# Altium integrated library Actel ProASIC3 nano.IntLib: 200 symbols (part 1 of 15)
Pins are listed as number, name and electrical type; pins without a type are passive.

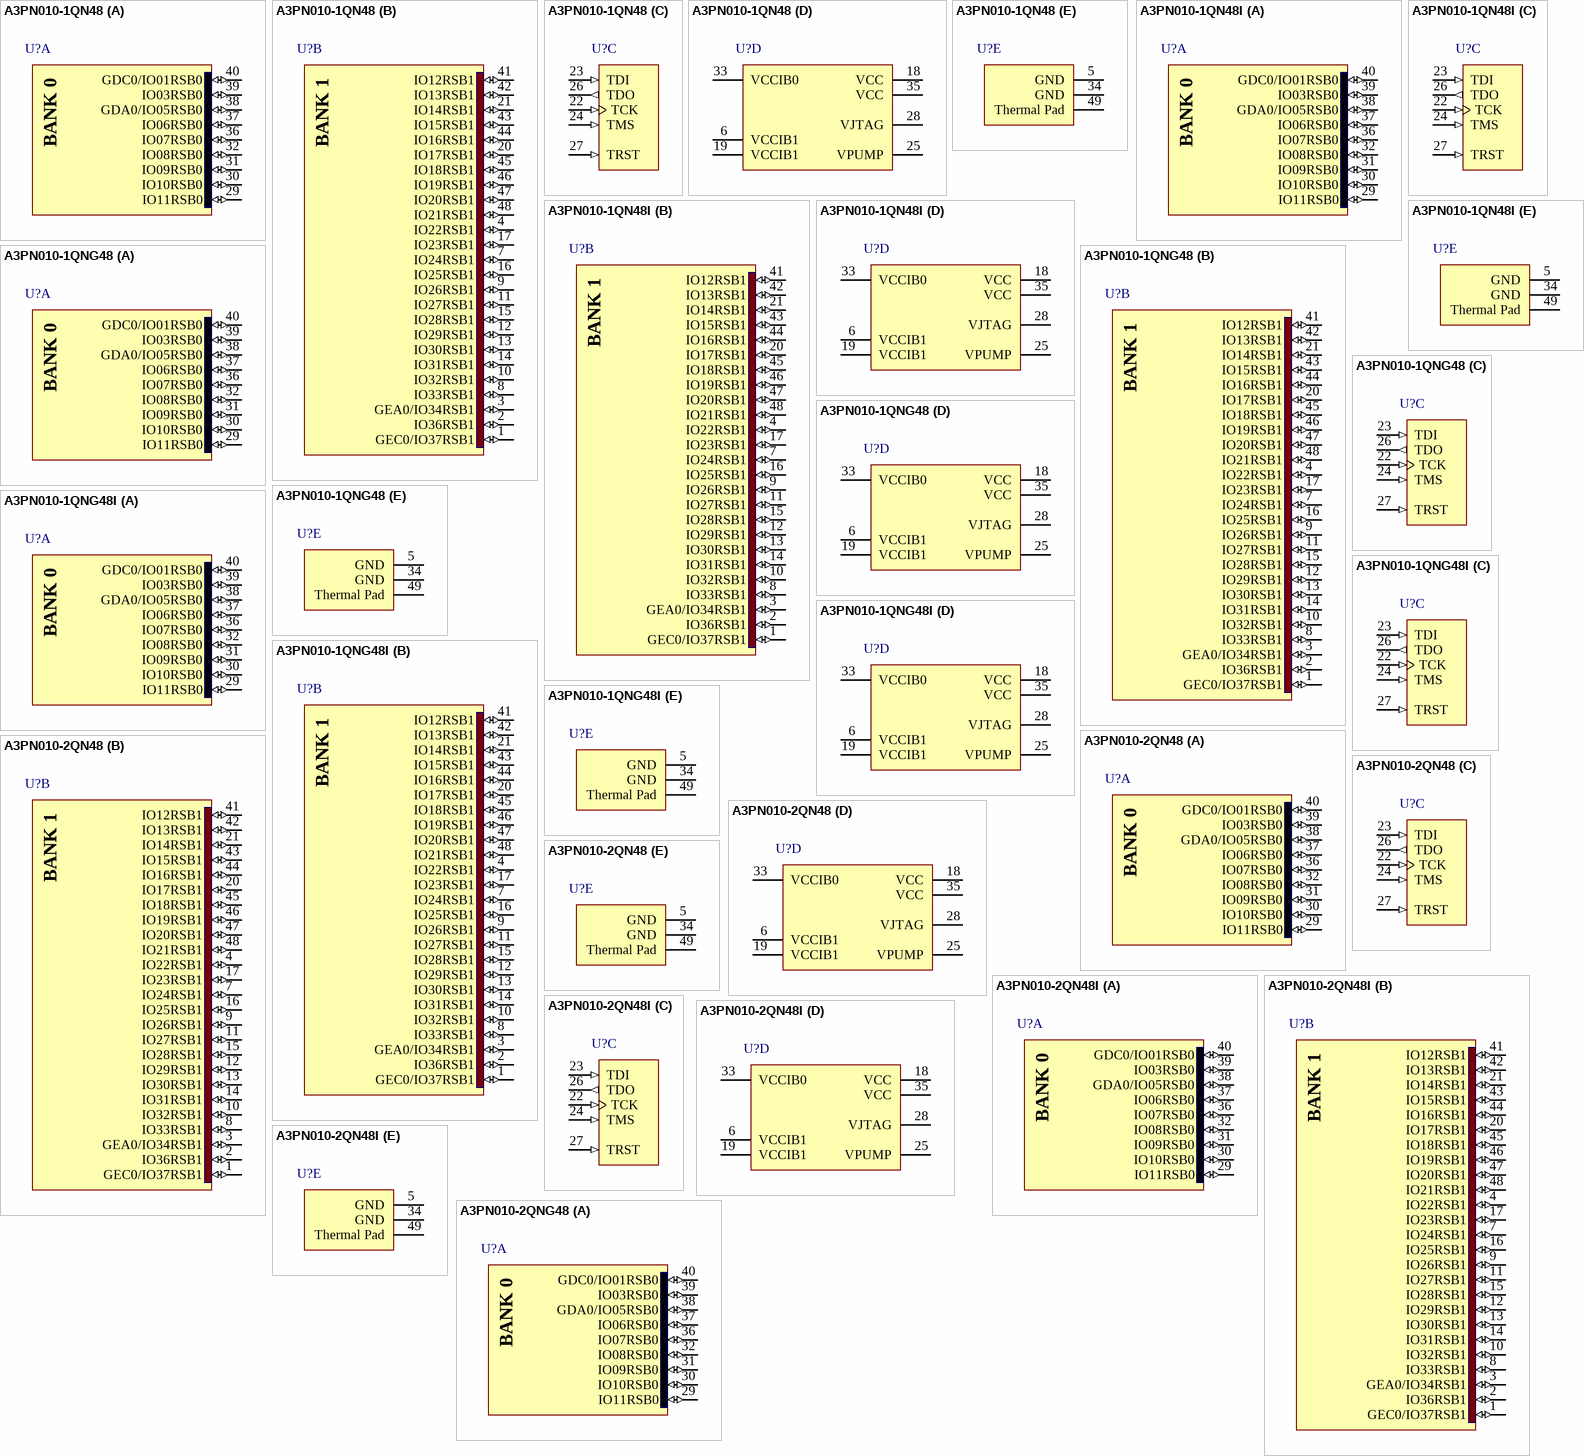
[diagram p0: symbols A3PN010-1QN48 to A3PN010-2QNG48]

## A3PN010-1QN48
designator U?
ProASIC3 nano Flash FPGA, 34 User IOs, 10K System Gates, Speed 15% above Standard, 48-Pin QFP, Commerical Grade; DatasheetVersion: v0.6, Jan-2010; PackageVersion: rev40, Jun-2011; PackageReference: QN48; PackageDescription: 48-Pin Quad Flat No-Lead 0.4 mm Pitch (QN48); Code_JEDEC: MO-220-VLLE-1; ComponentLink1Description: Manufacturer URL; ComponentLink1URL: http://www.actel.com/; ComponentLink2Description: ProASIC3 Datasheet; ComponentLink2URL: http://www.actel.com/documents/PA3_nano_DS.pdf; ComponentLink3Description: Package Mechanical Drawings; ComponentLink3URL: http://www.actel.com/documents/PckgMechDrwngs.pdf; ComponentLink4Description: ProASIC3 nano Documents; ComponentLink4URL: http://www.actel.com/products/pa3nano/docs.aspx
footprint QN48_N (QFN, 48-Leads, Body 6x6mm, Pitch 0.4mm, Thermal Pad 4.8x4.8mm, IPC Medium Density)
footprint QN48_L (QFN, 48-Leads, Body 6x6mm, Pitch 0.4mm, Thermal Pad 4.8x4.8mm, IPC High Density)
footprint QN48_M (QFN, 48-Leads, Body 6x6mm, Pitch 0.4mm, Thermal Pad 4.8x4.8mm, IPC Low Density)
part A pins: 29 IO11RSB0 (io), 30 IO10RSB0 (io), 31 IO09RSB0 (io), 32 IO08RSB0 (io), 36 IO07RSB0 (io), 37 IO06RSB0 (io), 38 GDA0/IO05RSB0 (io), 39 IO03RSB0 (io), 40 GDC0/IO01RSB0 (io)
part B pins: 1 GEC0/IO37RSB1 (io), 2 IO36RSB1 (io), 3 GEA0/IO34RSB1 (io), 4 IO22RSB1 (io), 7 IO24RSB1 (io), 8 IO33RSB1 (io), 9 IO26RSB1 (io), 10 IO32RSB1 (io), 11 IO27RSB1 (io), 12 IO29RSB1 (io), 13 IO30RSB1 (io), 14 IO31RSB1 (io), 15 IO28RSB1 (io), 16 IO25RSB1 (io), 17 IO23RSB1 (io), 20 IO17RSB1 (io), 21 IO14RSB1 (io), 41 IO12RSB1 (io), 42 IO13RSB1 (io), 43 IO15RSB1 (io), 44 IO16RSB1 (io), 45 IO18RSB1 (io), 46 IO19RSB1 (io), 47 IO20RSB1 (io), 48 IO21RSB1 (io)
part C pins: 22 TCK (in), 23 TDI (in), 24 TMS (in), 26 TDO (out), 27 TRST (in)
part D pins: 6 VCCIB1 (power), 18 VCC (power), 19 VCCIB1 (power), 25 VPUMP (power), 28 VJTAG (power), 33 VCCIB0 (power), 35 VCC (power)
part E pins: 5 GND (power), 34 GND (power), 49 Thermal Pad (power)
part A text: BANK 0
part B text: BANK 1

## A3PN010-1QN48I
designator U?
ProASIC3 nano Flash FPGA, 34 User IOs, 10K System Gates, Speed 15% above Standard, 48-Pin QFP, Industrial Grade; DatasheetVersion: v0.6, Jan-2010; PackageVersion: rev40, Jun-2011; PackageReference: QN48; PackageDescription: 48-Pin Quad Flat No-Lead 0.4 mm Pitch (QN48); Code_JEDEC: MO-220-VLLE-1; ComponentLink1Description: Manufacturer URL; ComponentLink1URL: http://www.actel.com/; ComponentLink2Description: ProASIC3 Datasheet; ComponentLink2URL: http://www.actel.com/documents/PA3_nano_DS.pdf; ComponentLink3Description: Package Mechanical Drawings; ComponentLink3URL: http://www.actel.com/documents/PckgMechDrwngs.pdf; ComponentLink4Description: ProASIC3 nano Documents; ComponentLink4URL: http://www.actel.com/products/pa3nano/docs.aspx
footprint QN48_N (QFN, 48-Leads, Body 6x6mm, Pitch 0.4mm, Thermal Pad 4.8x4.8mm, IPC Medium Density)
footprint QN48_L (QFN, 48-Leads, Body 6x6mm, Pitch 0.4mm, Thermal Pad 4.8x4.8mm, IPC High Density)
footprint QN48_M (QFN, 48-Leads, Body 6x6mm, Pitch 0.4mm, Thermal Pad 4.8x4.8mm, IPC Low Density)
part A pins: 29 IO11RSB0 (io), 30 IO10RSB0 (io), 31 IO09RSB0 (io), 32 IO08RSB0 (io), 36 IO07RSB0 (io), 37 IO06RSB0 (io), 38 GDA0/IO05RSB0 (io), 39 IO03RSB0 (io), 40 GDC0/IO01RSB0 (io)
part B pins: 1 GEC0/IO37RSB1 (io), 2 IO36RSB1 (io), 3 GEA0/IO34RSB1 (io), 4 IO22RSB1 (io), 7 IO24RSB1 (io), 8 IO33RSB1 (io), 9 IO26RSB1 (io), 10 IO32RSB1 (io), 11 IO27RSB1 (io), 12 IO29RSB1 (io), 13 IO30RSB1 (io), 14 IO31RSB1 (io), 15 IO28RSB1 (io), 16 IO25RSB1 (io), 17 IO23RSB1 (io), 20 IO17RSB1 (io), 21 IO14RSB1 (io), 41 IO12RSB1 (io), 42 IO13RSB1 (io), 43 IO15RSB1 (io), 44 IO16RSB1 (io), 45 IO18RSB1 (io), 46 IO19RSB1 (io), 47 IO20RSB1 (io), 48 IO21RSB1 (io)
part C pins: 22 TCK (in), 23 TDI (in), 24 TMS (in), 26 TDO (out), 27 TRST (in)
part D pins: 6 VCCIB1 (power), 18 VCC (power), 19 VCCIB1 (power), 25 VPUMP (power), 28 VJTAG (power), 33 VCCIB0 (power), 35 VCC (power)
part E pins: 5 GND (power), 34 GND (power), 49 Thermal Pad (power)
part A text: BANK 0
part B text: BANK 1

## A3PN010-1QNG48
designator U?
ProASIC3 nano Flash FPGA, 34 User IOs, 10K System Gates, Speed 15% above Standard, 48-Pin QFP, Pb-Free, Commerical Grade; DatasheetVersion: v0.6, Jan-2010; PackageVersion: rev40, Jun-2011; PackageReference: QN48; PackageDescription: 48-Pin Quad Flat No-Lead 0.4 mm Pitch (QN48); Code_JEDEC: MO-220-VLLE-1; ComponentLink1Description: Manufacturer URL; ComponentLink1URL: http://www.actel.com/; ComponentLink2Description: ProASIC3 Datasheet; ComponentLink2URL: http://www.actel.com/documents/PA3_nano_DS.pdf; ComponentLink3Description: Package Mechanical Drawings; ComponentLink3URL: http://www.actel.com/documents/PckgMechDrwngs.pdf; ComponentLink4Description: ProASIC3 nano Documents; ComponentLink4URL: http://www.actel.com/products/pa3nano/docs.aspx
footprint QN48_N (QFN, 48-Leads, Body 6x6mm, Pitch 0.4mm, Thermal Pad 4.8x4.8mm, IPC Medium Density)
footprint QN48_L (QFN, 48-Leads, Body 6x6mm, Pitch 0.4mm, Thermal Pad 4.8x4.8mm, IPC High Density)
footprint QN48_M (QFN, 48-Leads, Body 6x6mm, Pitch 0.4mm, Thermal Pad 4.8x4.8mm, IPC Low Density)
part A pins: 29 IO11RSB0 (io), 30 IO10RSB0 (io), 31 IO09RSB0 (io), 32 IO08RSB0 (io), 36 IO07RSB0 (io), 37 IO06RSB0 (io), 38 GDA0/IO05RSB0 (io), 39 IO03RSB0 (io), 40 GDC0/IO01RSB0 (io)
part B pins: 1 GEC0/IO37RSB1 (io), 2 IO36RSB1 (io), 3 GEA0/IO34RSB1 (io), 4 IO22RSB1 (io), 7 IO24RSB1 (io), 8 IO33RSB1 (io), 9 IO26RSB1 (io), 10 IO32RSB1 (io), 11 IO27RSB1 (io), 12 IO29RSB1 (io), 13 IO30RSB1 (io), 14 IO31RSB1 (io), 15 IO28RSB1 (io), 16 IO25RSB1 (io), 17 IO23RSB1 (io), 20 IO17RSB1 (io), 21 IO14RSB1 (io), 41 IO12RSB1 (io), 42 IO13RSB1 (io), 43 IO15RSB1 (io), 44 IO16RSB1 (io), 45 IO18RSB1 (io), 46 IO19RSB1 (io), 47 IO20RSB1 (io), 48 IO21RSB1 (io)
part C pins: 22 TCK (in), 23 TDI (in), 24 TMS (in), 26 TDO (out), 27 TRST (in)
part D pins: 6 VCCIB1 (power), 18 VCC (power), 19 VCCIB1 (power), 25 VPUMP (power), 28 VJTAG (power), 33 VCCIB0 (power), 35 VCC (power)
part E pins: 5 GND (power), 34 GND (power), 49 Thermal Pad (power)
part A text: BANK 0
part B text: BANK 1

## A3PN010-1QNG48I
designator U?
ProASIC3 nano Flash FPGA, 34 User IOs, 10K System Gates, Speed 15% above Standard, 48-Pin QFP, Pb-Free, Industrial Grade; DatasheetVersion: v0.6, Jan-2010; PackageVersion: rev40, Jun-2011; PackageReference: QN48; PackageDescription: 48-Pin Quad Flat No-Lead 0.4 mm Pitch (QN48); Code_JEDEC: MO-220-VLLE-1; ComponentLink1Description: Manufacturer URL; ComponentLink1URL: http://www.actel.com/; ComponentLink2Description: ProASIC3 Datasheet; ComponentLink2URL: http://www.actel.com/documents/PA3_nano_DS.pdf; ComponentLink3Description: Package Mechanical Drawings; ComponentLink3URL: http://www.actel.com/documents/PckgMechDrwngs.pdf; ComponentLink4Description: ProASIC3 nano Documents; ComponentLink4URL: http://www.actel.com/products/pa3nano/docs.aspx
footprint QN48_N (QFN, 48-Leads, Body 6x6mm, Pitch 0.4mm, Thermal Pad 4.8x4.8mm, IPC Medium Density)
footprint QN48_L (QFN, 48-Leads, Body 6x6mm, Pitch 0.4mm, Thermal Pad 4.8x4.8mm, IPC High Density)
footprint QN48_M (QFN, 48-Leads, Body 6x6mm, Pitch 0.4mm, Thermal Pad 4.8x4.8mm, IPC Low Density)
part A pins: 29 IO11RSB0 (io), 30 IO10RSB0 (io), 31 IO09RSB0 (io), 32 IO08RSB0 (io), 36 IO07RSB0 (io), 37 IO06RSB0 (io), 38 GDA0/IO05RSB0 (io), 39 IO03RSB0 (io), 40 GDC0/IO01RSB0 (io)
part B pins: 1 GEC0/IO37RSB1 (io), 2 IO36RSB1 (io), 3 GEA0/IO34RSB1 (io), 4 IO22RSB1 (io), 7 IO24RSB1 (io), 8 IO33RSB1 (io), 9 IO26RSB1 (io), 10 IO32RSB1 (io), 11 IO27RSB1 (io), 12 IO29RSB1 (io), 13 IO30RSB1 (io), 14 IO31RSB1 (io), 15 IO28RSB1 (io), 16 IO25RSB1 (io), 17 IO23RSB1 (io), 20 IO17RSB1 (io), 21 IO14RSB1 (io), 41 IO12RSB1 (io), 42 IO13RSB1 (io), 43 IO15RSB1 (io), 44 IO16RSB1 (io), 45 IO18RSB1 (io), 46 IO19RSB1 (io), 47 IO20RSB1 (io), 48 IO21RSB1 (io)
part C pins: 22 TCK (in), 23 TDI (in), 24 TMS (in), 26 TDO (out), 27 TRST (in)
part D pins: 6 VCCIB1 (power), 18 VCC (power), 19 VCCIB1 (power), 25 VPUMP (power), 28 VJTAG (power), 33 VCCIB0 (power), 35 VCC (power)
part E pins: 5 GND (power), 34 GND (power), 49 Thermal Pad (power)
part A text: BANK 0
part B text: BANK 1

## A3PN010-2QN48
designator U?
ProASIC3 nano Flash FPGA, 34 User IOs, 10K System Gates, Speed 25% above Standard, 48-Pin QFP, Commerical Grade; DatasheetVersion: v0.6, Jan-2010; PackageVersion: rev40, Jun-2011; PackageReference: QN48; PackageDescription: 48-Pin Quad Flat No-Lead 0.4 mm Pitch (QN48); Code_JEDEC: MO-220-VLLE-1; ComponentLink1Description: Manufacturer URL; ComponentLink1URL: http://www.actel.com/; ComponentLink2Description: ProASIC3 Datasheet; ComponentLink2URL: http://www.actel.com/documents/PA3_nano_DS.pdf; ComponentLink3Description: Package Mechanical Drawings; ComponentLink3URL: http://www.actel.com/documents/PckgMechDrwngs.pdf; ComponentLink4Description: ProASIC3 nano Documents; ComponentLink4URL: http://www.actel.com/products/pa3nano/docs.aspx
footprint QN48_N (QFN, 48-Leads, Body 6x6mm, Pitch 0.4mm, Thermal Pad 4.8x4.8mm, IPC Medium Density)
footprint QN48_L (QFN, 48-Leads, Body 6x6mm, Pitch 0.4mm, Thermal Pad 4.8x4.8mm, IPC High Density)
footprint QN48_M (QFN, 48-Leads, Body 6x6mm, Pitch 0.4mm, Thermal Pad 4.8x4.8mm, IPC Low Density)
part A pins: 29 IO11RSB0 (io), 30 IO10RSB0 (io), 31 IO09RSB0 (io), 32 IO08RSB0 (io), 36 IO07RSB0 (io), 37 IO06RSB0 (io), 38 GDA0/IO05RSB0 (io), 39 IO03RSB0 (io), 40 GDC0/IO01RSB0 (io)
part B pins: 1 GEC0/IO37RSB1 (io), 2 IO36RSB1 (io), 3 GEA0/IO34RSB1 (io), 4 IO22RSB1 (io), 7 IO24RSB1 (io), 8 IO33RSB1 (io), 9 IO26RSB1 (io), 10 IO32RSB1 (io), 11 IO27RSB1 (io), 12 IO29RSB1 (io), 13 IO30RSB1 (io), 14 IO31RSB1 (io), 15 IO28RSB1 (io), 16 IO25RSB1 (io), 17 IO23RSB1 (io), 20 IO17RSB1 (io), 21 IO14RSB1 (io), 41 IO12RSB1 (io), 42 IO13RSB1 (io), 43 IO15RSB1 (io), 44 IO16RSB1 (io), 45 IO18RSB1 (io), 46 IO19RSB1 (io), 47 IO20RSB1 (io), 48 IO21RSB1 (io)
part C pins: 22 TCK (in), 23 TDI (in), 24 TMS (in), 26 TDO (out), 27 TRST (in)
part D pins: 6 VCCIB1 (power), 18 VCC (power), 19 VCCIB1 (power), 25 VPUMP (power), 28 VJTAG (power), 33 VCCIB0 (power), 35 VCC (power)
part E pins: 5 GND (power), 34 GND (power), 49 Thermal Pad (power)
part A text: BANK 0
part B text: BANK 1

## A3PN010-2QN48I
designator U?
ProASIC3 nano Flash FPGA, 34 User IOs, 10K System Gates, Speed 25% above Standard, 48-Pin QFP, Industrial Grade; DatasheetVersion: v0.6, Jan-2010; PackageVersion: rev40, Jun-2011; PackageReference: QN48; PackageDescription: 48-Pin Quad Flat No-Lead 0.4 mm Pitch (QN48); Code_JEDEC: MO-220-VLLE-1; ComponentLink1Description: Manufacturer URL; ComponentLink1URL: http://www.actel.com/; ComponentLink2Description: ProASIC3 Datasheet; ComponentLink2URL: http://www.actel.com/documents/PA3_nano_DS.pdf; ComponentLink3Description: Package Mechanical Drawings; ComponentLink3URL: http://www.actel.com/documents/PckgMechDrwngs.pdf; ComponentLink4Description: ProASIC3 nano Documents; ComponentLink4URL: http://www.actel.com/products/pa3nano/docs.aspx
footprint QN48_N (QFN, 48-Leads, Body 6x6mm, Pitch 0.4mm, Thermal Pad 4.8x4.8mm, IPC Medium Density)
footprint QN48_L (QFN, 48-Leads, Body 6x6mm, Pitch 0.4mm, Thermal Pad 4.8x4.8mm, IPC High Density)
footprint QN48_M (QFN, 48-Leads, Body 6x6mm, Pitch 0.4mm, Thermal Pad 4.8x4.8mm, IPC Low Density)
part A pins: 29 IO11RSB0 (io), 30 IO10RSB0 (io), 31 IO09RSB0 (io), 32 IO08RSB0 (io), 36 IO07RSB0 (io), 37 IO06RSB0 (io), 38 GDA0/IO05RSB0 (io), 39 IO03RSB0 (io), 40 GDC0/IO01RSB0 (io)
part B pins: 1 GEC0/IO37RSB1 (io), 2 IO36RSB1 (io), 3 GEA0/IO34RSB1 (io), 4 IO22RSB1 (io), 7 IO24RSB1 (io), 8 IO33RSB1 (io), 9 IO26RSB1 (io), 10 IO32RSB1 (io), 11 IO27RSB1 (io), 12 IO29RSB1 (io), 13 IO30RSB1 (io), 14 IO31RSB1 (io), 15 IO28RSB1 (io), 16 IO25RSB1 (io), 17 IO23RSB1 (io), 20 IO17RSB1 (io), 21 IO14RSB1 (io), 41 IO12RSB1 (io), 42 IO13RSB1 (io), 43 IO15RSB1 (io), 44 IO16RSB1 (io), 45 IO18RSB1 (io), 46 IO19RSB1 (io), 47 IO20RSB1 (io), 48 IO21RSB1 (io)
part C pins: 22 TCK (in), 23 TDI (in), 24 TMS (in), 26 TDO (out), 27 TRST (in)
part D pins: 6 VCCIB1 (power), 18 VCC (power), 19 VCCIB1 (power), 25 VPUMP (power), 28 VJTAG (power), 33 VCCIB0 (power), 35 VCC (power)
part E pins: 5 GND (power), 34 GND (power), 49 Thermal Pad (power)
part A text: BANK 0
part B text: BANK 1

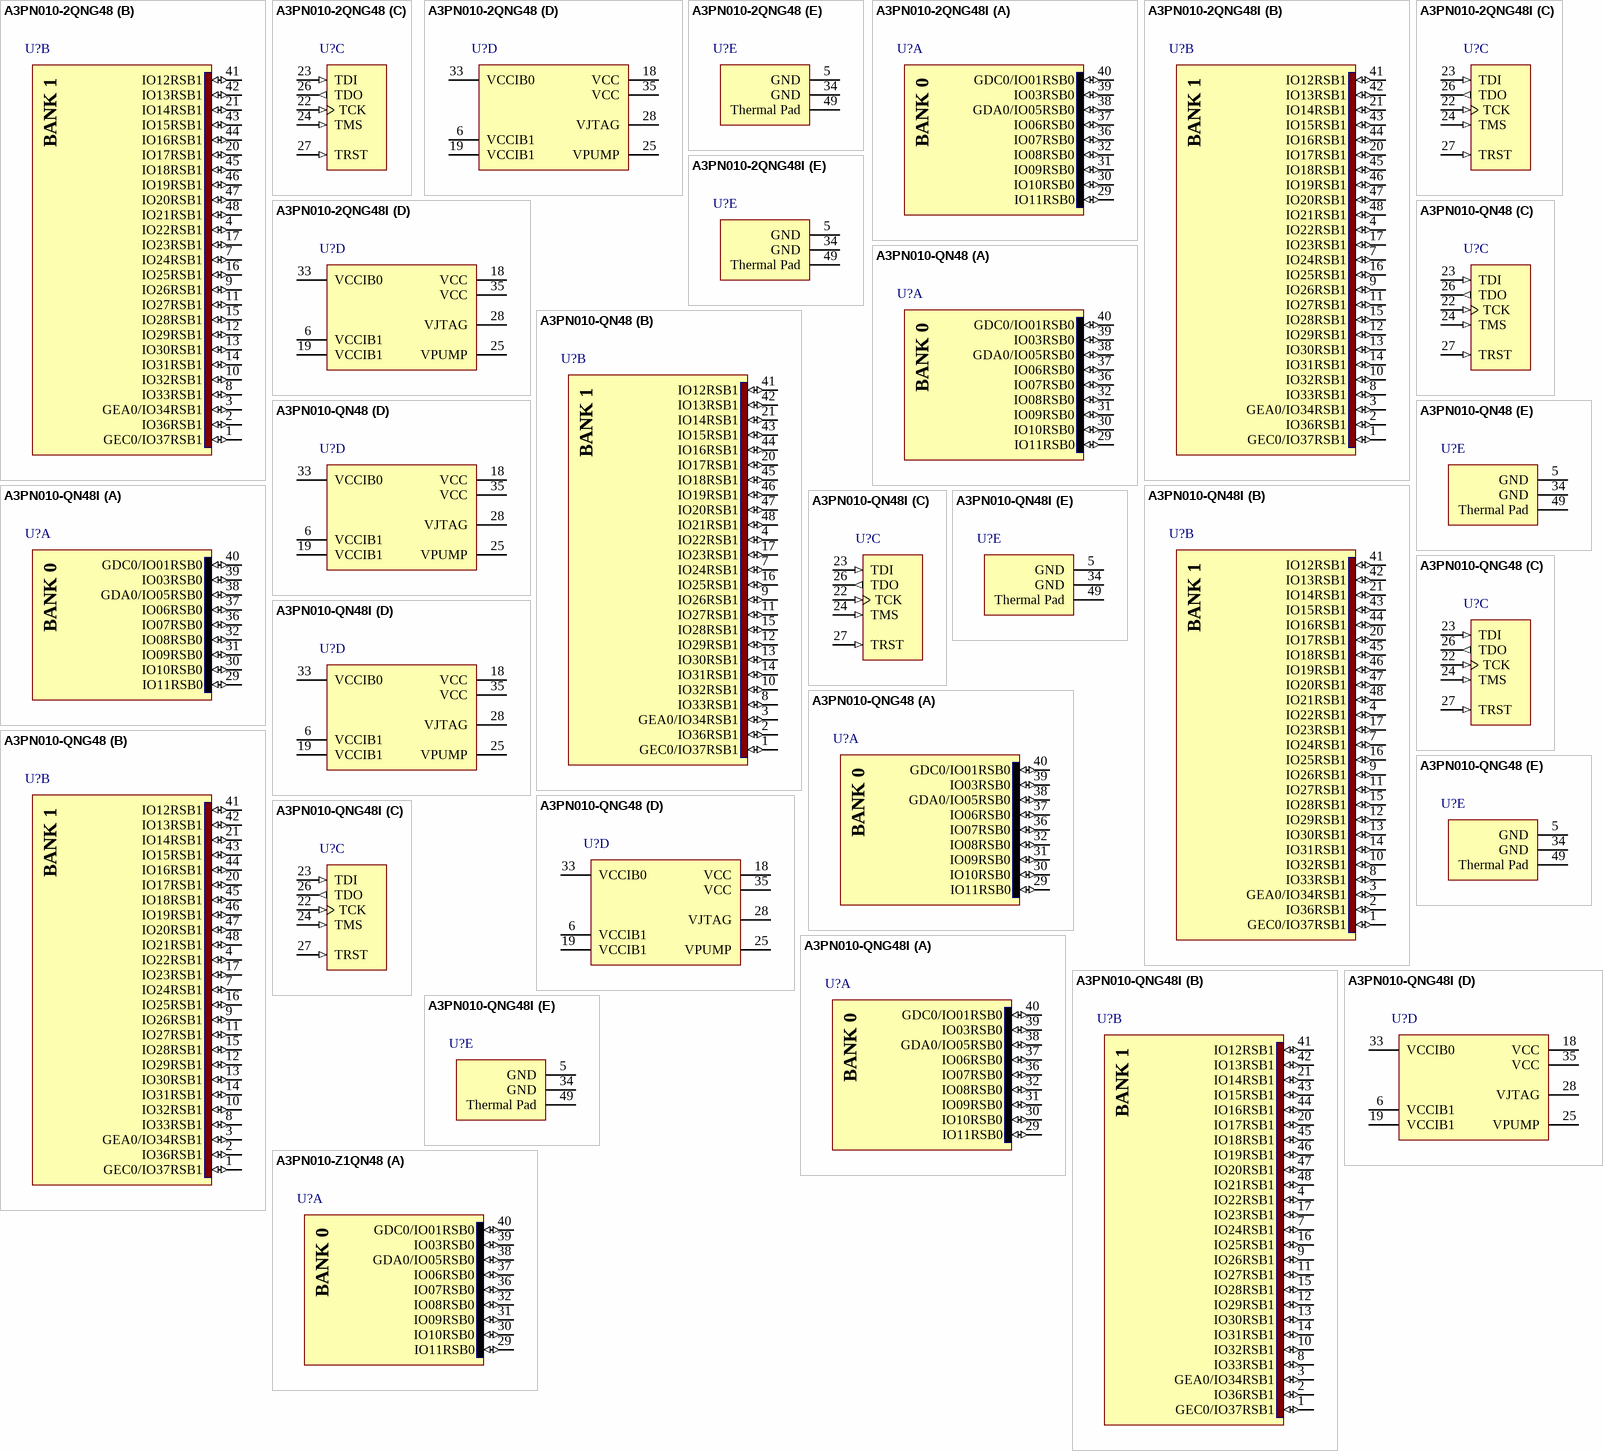
[diagram p1: symbols A3PN010-2QNG48 to A3PN010-Z1QN48]

## A3PN010-2QNG48
designator U?
ProASIC3 nano Flash FPGA, 34 User IOs, 10K System Gates, Speed 25% above Standard, 48-Pin QFP, Pb-Free, Commerical Grade; DatasheetVersion: v0.6, Jan-2010; PackageVersion: rev40, Jun-2011; PackageReference: QN48; PackageDescription: 48-Pin Quad Flat No-Lead 0.4 mm Pitch (QN48); Code_JEDEC: MO-220-VLLE-1; ComponentLink1Description: Manufacturer URL; ComponentLink1URL: http://www.actel.com/; ComponentLink2Description: ProASIC3 Datasheet; ComponentLink2URL: http://www.actel.com/documents/PA3_nano_DS.pdf; ComponentLink3Description: Package Mechanical Drawings; ComponentLink3URL: http://www.actel.com/documents/PckgMechDrwngs.pdf; ComponentLink4Description: ProASIC3 nano Documents; ComponentLink4URL: http://www.actel.com/products/pa3nano/docs.aspx
footprint QN48_N (QFN, 48-Leads, Body 6x6mm, Pitch 0.4mm, Thermal Pad 4.8x4.8mm, IPC Medium Density)
footprint QN48_L (QFN, 48-Leads, Body 6x6mm, Pitch 0.4mm, Thermal Pad 4.8x4.8mm, IPC High Density)
footprint QN48_M (QFN, 48-Leads, Body 6x6mm, Pitch 0.4mm, Thermal Pad 4.8x4.8mm, IPC Low Density)
part A pins: 29 IO11RSB0 (io), 30 IO10RSB0 (io), 31 IO09RSB0 (io), 32 IO08RSB0 (io), 36 IO07RSB0 (io), 37 IO06RSB0 (io), 38 GDA0/IO05RSB0 (io), 39 IO03RSB0 (io), 40 GDC0/IO01RSB0 (io)
part B pins: 1 GEC0/IO37RSB1 (io), 2 IO36RSB1 (io), 3 GEA0/IO34RSB1 (io), 4 IO22RSB1 (io), 7 IO24RSB1 (io), 8 IO33RSB1 (io), 9 IO26RSB1 (io), 10 IO32RSB1 (io), 11 IO27RSB1 (io), 12 IO29RSB1 (io), 13 IO30RSB1 (io), 14 IO31RSB1 (io), 15 IO28RSB1 (io), 16 IO25RSB1 (io), 17 IO23RSB1 (io), 20 IO17RSB1 (io), 21 IO14RSB1 (io), 41 IO12RSB1 (io), 42 IO13RSB1 (io), 43 IO15RSB1 (io), 44 IO16RSB1 (io), 45 IO18RSB1 (io), 46 IO19RSB1 (io), 47 IO20RSB1 (io), 48 IO21RSB1 (io)
part C pins: 22 TCK (in), 23 TDI (in), 24 TMS (in), 26 TDO (out), 27 TRST (in)
part D pins: 6 VCCIB1 (power), 18 VCC (power), 19 VCCIB1 (power), 25 VPUMP (power), 28 VJTAG (power), 33 VCCIB0 (power), 35 VCC (power)
part E pins: 5 GND (power), 34 GND (power), 49 Thermal Pad (power)
part A text: BANK 0
part B text: BANK 1

## A3PN010-2QNG48I
designator U?
ProASIC3 nano Flash FPGA, 34 User IOs, 10K System Gates, Speed 25% above Standard, 48-Pin QFP, Pb-Free, Industrial Grade; DatasheetVersion: v0.6, Jan-2010; PackageVersion: rev40, Jun-2011; PackageReference: QN48; PackageDescription: 48-Pin Quad Flat No-Lead 0.4 mm Pitch (QN48); Code_JEDEC: MO-220-VLLE-1; ComponentLink1Description: Manufacturer URL; ComponentLink1URL: http://www.actel.com/; ComponentLink2Description: ProASIC3 Datasheet; ComponentLink2URL: http://www.actel.com/documents/PA3_nano_DS.pdf; ComponentLink3Description: Package Mechanical Drawings; ComponentLink3URL: http://www.actel.com/documents/PckgMechDrwngs.pdf; ComponentLink4Description: ProASIC3 nano Documents; ComponentLink4URL: http://www.actel.com/products/pa3nano/docs.aspx
footprint QN48_N (QFN, 48-Leads, Body 6x6mm, Pitch 0.4mm, Thermal Pad 4.8x4.8mm, IPC Medium Density)
footprint QN48_L (QFN, 48-Leads, Body 6x6mm, Pitch 0.4mm, Thermal Pad 4.8x4.8mm, IPC High Density)
footprint QN48_M (QFN, 48-Leads, Body 6x6mm, Pitch 0.4mm, Thermal Pad 4.8x4.8mm, IPC Low Density)
part A pins: 29 IO11RSB0 (io), 30 IO10RSB0 (io), 31 IO09RSB0 (io), 32 IO08RSB0 (io), 36 IO07RSB0 (io), 37 IO06RSB0 (io), 38 GDA0/IO05RSB0 (io), 39 IO03RSB0 (io), 40 GDC0/IO01RSB0 (io)
part B pins: 1 GEC0/IO37RSB1 (io), 2 IO36RSB1 (io), 3 GEA0/IO34RSB1 (io), 4 IO22RSB1 (io), 7 IO24RSB1 (io), 8 IO33RSB1 (io), 9 IO26RSB1 (io), 10 IO32RSB1 (io), 11 IO27RSB1 (io), 12 IO29RSB1 (io), 13 IO30RSB1 (io), 14 IO31RSB1 (io), 15 IO28RSB1 (io), 16 IO25RSB1 (io), 17 IO23RSB1 (io), 20 IO17RSB1 (io), 21 IO14RSB1 (io), 41 IO12RSB1 (io), 42 IO13RSB1 (io), 43 IO15RSB1 (io), 44 IO16RSB1 (io), 45 IO18RSB1 (io), 46 IO19RSB1 (io), 47 IO20RSB1 (io), 48 IO21RSB1 (io)
part C pins: 22 TCK (in), 23 TDI (in), 24 TMS (in), 26 TDO (out), 27 TRST (in)
part D pins: 6 VCCIB1 (power), 18 VCC (power), 19 VCCIB1 (power), 25 VPUMP (power), 28 VJTAG (power), 33 VCCIB0 (power), 35 VCC (power)
part E pins: 5 GND (power), 34 GND (power), 49 Thermal Pad (power)
part A text: BANK 0
part B text: BANK 1

## A3PN010-QN48
designator U?
ProASIC3 nano Flash FPGA, 34 User IOs, 10K System Gates, Standard Speed, 48-Pin QFP, Commerical Grade; DatasheetVersion: v0.6, Jan-2010; PackageVersion: rev40, Jun-2011; PackageReference: QN48; PackageDescription: 48-Pin Quad Flat No-Lead 0.4 mm Pitch (QN48); Code_JEDEC: MO-220-VLLE-1; ComponentLink1Description: Manufacturer URL; ComponentLink1URL: http://www.actel.com/; ComponentLink2Description: ProASIC3 Datasheet; ComponentLink2URL: http://www.actel.com/documents/PA3_nano_DS.pdf; ComponentLink3Description: Package Mechanical Drawings; ComponentLink3URL: http://www.actel.com/documents/PckgMechDrwngs.pdf; ComponentLink4Description: ProASIC3 nano Documents; ComponentLink4URL: http://www.actel.com/products/pa3nano/docs.aspx
footprint QN48_N (QFN, 48-Leads, Body 6x6mm, Pitch 0.4mm, Thermal Pad 4.8x4.8mm, IPC Medium Density)
footprint QN48_L (QFN, 48-Leads, Body 6x6mm, Pitch 0.4mm, Thermal Pad 4.8x4.8mm, IPC High Density)
footprint QN48_M (QFN, 48-Leads, Body 6x6mm, Pitch 0.4mm, Thermal Pad 4.8x4.8mm, IPC Low Density)
part A pins: 29 IO11RSB0 (io), 30 IO10RSB0 (io), 31 IO09RSB0 (io), 32 IO08RSB0 (io), 36 IO07RSB0 (io), 37 IO06RSB0 (io), 38 GDA0/IO05RSB0 (io), 39 IO03RSB0 (io), 40 GDC0/IO01RSB0 (io)
part B pins: 1 GEC0/IO37RSB1 (io), 2 IO36RSB1 (io), 3 GEA0/IO34RSB1 (io), 4 IO22RSB1 (io), 7 IO24RSB1 (io), 8 IO33RSB1 (io), 9 IO26RSB1 (io), 10 IO32RSB1 (io), 11 IO27RSB1 (io), 12 IO29RSB1 (io), 13 IO30RSB1 (io), 14 IO31RSB1 (io), 15 IO28RSB1 (io), 16 IO25RSB1 (io), 17 IO23RSB1 (io), 20 IO17RSB1 (io), 21 IO14RSB1 (io), 41 IO12RSB1 (io), 42 IO13RSB1 (io), 43 IO15RSB1 (io), 44 IO16RSB1 (io), 45 IO18RSB1 (io), 46 IO19RSB1 (io), 47 IO20RSB1 (io), 48 IO21RSB1 (io)
part C pins: 22 TCK (in), 23 TDI (in), 24 TMS (in), 26 TDO (out), 27 TRST (in)
part D pins: 6 VCCIB1 (power), 18 VCC (power), 19 VCCIB1 (power), 25 VPUMP (power), 28 VJTAG (power), 33 VCCIB0 (power), 35 VCC (power)
part E pins: 5 GND (power), 34 GND (power), 49 Thermal Pad (power)
part A text: BANK 0
part B text: BANK 1

## A3PN010-QN48I
designator U?
ProASIC3 nano Flash FPGA, 34 User IOs, 10K System Gates, Standard Speed, 48-Pin QFP, Industrial Grade; DatasheetVersion: v0.6, Jan-2010; PackageVersion: rev40, Jun-2011; PackageReference: QN48; PackageDescription: 48-Pin Quad Flat No-Lead 0.4 mm Pitch (QN48); Code_JEDEC: MO-220-VLLE-1; ComponentLink1Description: Manufacturer URL; ComponentLink1URL: http://www.actel.com/; ComponentLink2Description: ProASIC3 Datasheet; ComponentLink2URL: http://www.actel.com/documents/PA3_nano_DS.pdf; ComponentLink3Description: Package Mechanical Drawings; ComponentLink3URL: http://www.actel.com/documents/PckgMechDrwngs.pdf; ComponentLink4Description: ProASIC3 nano Documents; ComponentLink4URL: http://www.actel.com/products/pa3nano/docs.aspx
footprint QN48_N (QFN, 48-Leads, Body 6x6mm, Pitch 0.4mm, Thermal Pad 4.8x4.8mm, IPC Medium Density)
footprint QN48_L (QFN, 48-Leads, Body 6x6mm, Pitch 0.4mm, Thermal Pad 4.8x4.8mm, IPC High Density)
footprint QN48_M (QFN, 48-Leads, Body 6x6mm, Pitch 0.4mm, Thermal Pad 4.8x4.8mm, IPC Low Density)
part A pins: 29 IO11RSB0 (io), 30 IO10RSB0 (io), 31 IO09RSB0 (io), 32 IO08RSB0 (io), 36 IO07RSB0 (io), 37 IO06RSB0 (io), 38 GDA0/IO05RSB0 (io), 39 IO03RSB0 (io), 40 GDC0/IO01RSB0 (io)
part B pins: 1 GEC0/IO37RSB1 (io), 2 IO36RSB1 (io), 3 GEA0/IO34RSB1 (io), 4 IO22RSB1 (io), 7 IO24RSB1 (io), 8 IO33RSB1 (io), 9 IO26RSB1 (io), 10 IO32RSB1 (io), 11 IO27RSB1 (io), 12 IO29RSB1 (io), 13 IO30RSB1 (io), 14 IO31RSB1 (io), 15 IO28RSB1 (io), 16 IO25RSB1 (io), 17 IO23RSB1 (io), 20 IO17RSB1 (io), 21 IO14RSB1 (io), 41 IO12RSB1 (io), 42 IO13RSB1 (io), 43 IO15RSB1 (io), 44 IO16RSB1 (io), 45 IO18RSB1 (io), 46 IO19RSB1 (io), 47 IO20RSB1 (io), 48 IO21RSB1 (io)
part C pins: 22 TCK (in), 23 TDI (in), 24 TMS (in), 26 TDO (out), 27 TRST (in)
part D pins: 6 VCCIB1 (power), 18 VCC (power), 19 VCCIB1 (power), 25 VPUMP (power), 28 VJTAG (power), 33 VCCIB0 (power), 35 VCC (power)
part E pins: 5 GND (power), 34 GND (power), 49 Thermal Pad (power)
part A text: BANK 0
part B text: BANK 1

## A3PN010-QNG48
designator U?
ProASIC3 nano Flash FPGA, 34 User IOs, 10K System Gates, Standard Speed, 48-Pin QFP, Pb-Free, Commerical Grade; DatasheetVersion: v0.6, Jan-2010; PackageVersion: rev40, Jun-2011; PackageReference: QN48; PackageDescription: 48-Pin Quad Flat No-Lead 0.4 mm Pitch (QN48); Code_JEDEC: MO-220-VLLE-1; ComponentLink1Description: Manufacturer URL; ComponentLink1URL: http://www.actel.com/; ComponentLink2Description: ProASIC3 Datasheet; ComponentLink2URL: http://www.actel.com/documents/PA3_nano_DS.pdf; ComponentLink3Description: Package Mechanical Drawings; ComponentLink3URL: http://www.actel.com/documents/PckgMechDrwngs.pdf; ComponentLink4Description: ProASIC3 nano Documents; ComponentLink4URL: http://www.actel.com/products/pa3nano/docs.aspx
footprint QN48_N (QFN, 48-Leads, Body 6x6mm, Pitch 0.4mm, Thermal Pad 4.8x4.8mm, IPC Medium Density)
footprint QN48_L (QFN, 48-Leads, Body 6x6mm, Pitch 0.4mm, Thermal Pad 4.8x4.8mm, IPC High Density)
footprint QN48_M (QFN, 48-Leads, Body 6x6mm, Pitch 0.4mm, Thermal Pad 4.8x4.8mm, IPC Low Density)
part A pins: 29 IO11RSB0 (io), 30 IO10RSB0 (io), 31 IO09RSB0 (io), 32 IO08RSB0 (io), 36 IO07RSB0 (io), 37 IO06RSB0 (io), 38 GDA0/IO05RSB0 (io), 39 IO03RSB0 (io), 40 GDC0/IO01RSB0 (io)
part B pins: 1 GEC0/IO37RSB1 (io), 2 IO36RSB1 (io), 3 GEA0/IO34RSB1 (io), 4 IO22RSB1 (io), 7 IO24RSB1 (io), 8 IO33RSB1 (io), 9 IO26RSB1 (io), 10 IO32RSB1 (io), 11 IO27RSB1 (io), 12 IO29RSB1 (io), 13 IO30RSB1 (io), 14 IO31RSB1 (io), 15 IO28RSB1 (io), 16 IO25RSB1 (io), 17 IO23RSB1 (io), 20 IO17RSB1 (io), 21 IO14RSB1 (io), 41 IO12RSB1 (io), 42 IO13RSB1 (io), 43 IO15RSB1 (io), 44 IO16RSB1 (io), 45 IO18RSB1 (io), 46 IO19RSB1 (io), 47 IO20RSB1 (io), 48 IO21RSB1 (io)
part C pins: 22 TCK (in), 23 TDI (in), 24 TMS (in), 26 TDO (out), 27 TRST (in)
part D pins: 6 VCCIB1 (power), 18 VCC (power), 19 VCCIB1 (power), 25 VPUMP (power), 28 VJTAG (power), 33 VCCIB0 (power), 35 VCC (power)
part E pins: 5 GND (power), 34 GND (power), 49 Thermal Pad (power)
part A text: BANK 0
part B text: BANK 1

## A3PN010-QNG48I
designator U?
ProASIC3 nano Flash FPGA, 34 User IOs, 10K System Gates, Standard Speed, 48-Pin QFP, Pb-Free, Industrial Grade; DatasheetVersion: v0.6, Jan-2010; PackageVersion: rev40, Jun-2011; PackageReference: QN48; PackageDescription: 48-Pin Quad Flat No-Lead 0.4 mm Pitch (QN48); Code_JEDEC: MO-220-VLLE-1; ComponentLink1Description: Manufacturer URL; ComponentLink1URL: http://www.actel.com/; ComponentLink2Description: ProASIC3 Datasheet; ComponentLink2URL: http://www.actel.com/documents/PA3_nano_DS.pdf; ComponentLink3Description: Package Mechanical Drawings; ComponentLink3URL: http://www.actel.com/documents/PckgMechDrwngs.pdf; ComponentLink4Description: ProASIC3 nano Documents; ComponentLink4URL: http://www.actel.com/products/pa3nano/docs.aspx
footprint QN48_N (QFN, 48-Leads, Body 6x6mm, Pitch 0.4mm, Thermal Pad 4.8x4.8mm, IPC Medium Density)
footprint QN48_L (QFN, 48-Leads, Body 6x6mm, Pitch 0.4mm, Thermal Pad 4.8x4.8mm, IPC High Density)
footprint QN48_M (QFN, 48-Leads, Body 6x6mm, Pitch 0.4mm, Thermal Pad 4.8x4.8mm, IPC Low Density)
part A pins: 29 IO11RSB0 (io), 30 IO10RSB0 (io), 31 IO09RSB0 (io), 32 IO08RSB0 (io), 36 IO07RSB0 (io), 37 IO06RSB0 (io), 38 GDA0/IO05RSB0 (io), 39 IO03RSB0 (io), 40 GDC0/IO01RSB0 (io)
part B pins: 1 GEC0/IO37RSB1 (io), 2 IO36RSB1 (io), 3 GEA0/IO34RSB1 (io), 4 IO22RSB1 (io), 7 IO24RSB1 (io), 8 IO33RSB1 (io), 9 IO26RSB1 (io), 10 IO32RSB1 (io), 11 IO27RSB1 (io), 12 IO29RSB1 (io), 13 IO30RSB1 (io), 14 IO31RSB1 (io), 15 IO28RSB1 (io), 16 IO25RSB1 (io), 17 IO23RSB1 (io), 20 IO17RSB1 (io), 21 IO14RSB1 (io), 41 IO12RSB1 (io), 42 IO13RSB1 (io), 43 IO15RSB1 (io), 44 IO16RSB1 (io), 45 IO18RSB1 (io), 46 IO19RSB1 (io), 47 IO20RSB1 (io), 48 IO21RSB1 (io)
part C pins: 22 TCK (in), 23 TDI (in), 24 TMS (in), 26 TDO (out), 27 TRST (in)
part D pins: 6 VCCIB1 (power), 18 VCC (power), 19 VCCIB1 (power), 25 VPUMP (power), 28 VJTAG (power), 33 VCCIB0 (power), 35 VCC (power)
part E pins: 5 GND (power), 34 GND (power), 49 Thermal Pad (power)
part A text: BANK 0
part B text: BANK 1

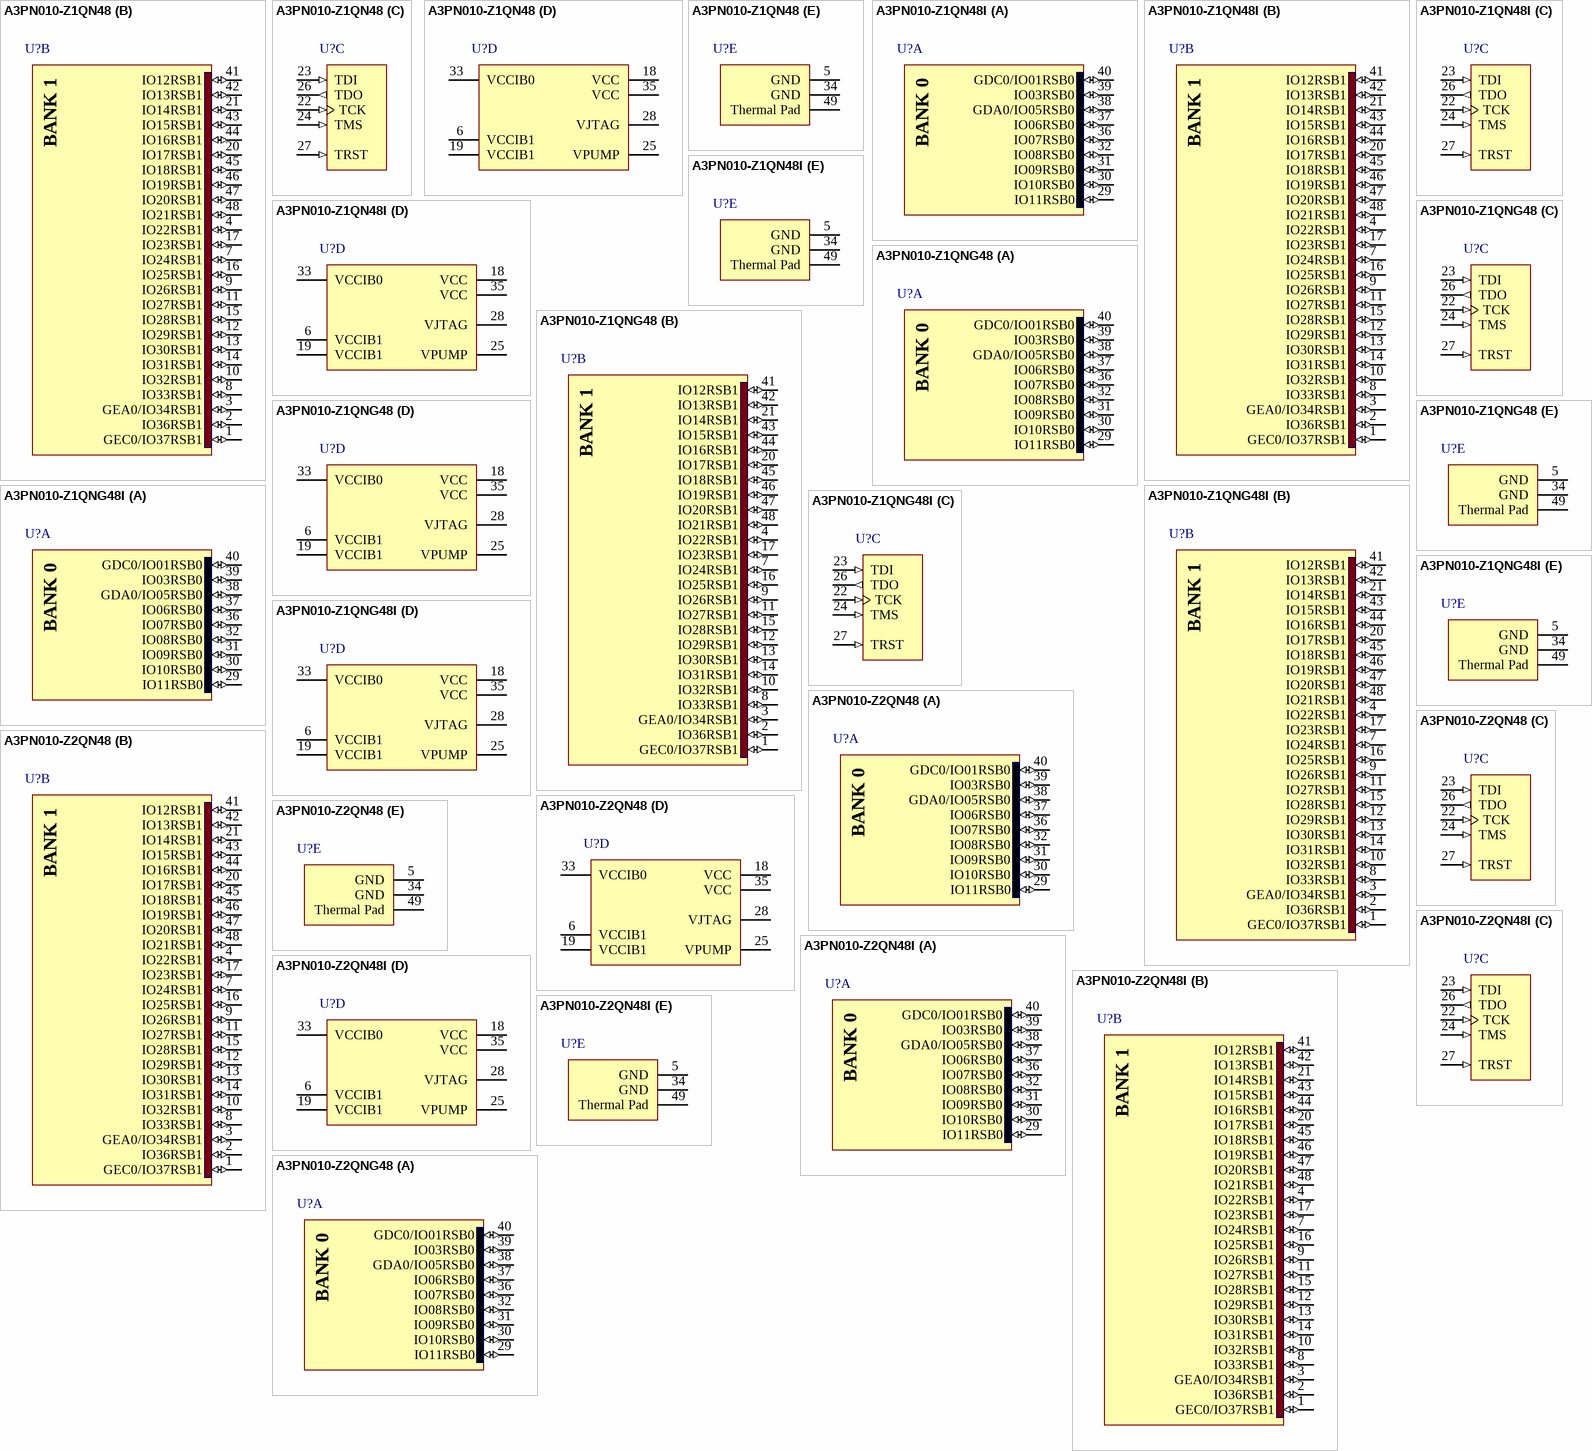
[diagram p2: symbols A3PN010-Z1QN48 to A3PN010-Z2QNG48]

## A3PN010-Z1QN48
designator U?
ProASIC3 nano Flash FPGA, 34 User IOs, 10K System Gates, Z Feature Grade, Speed 15% above Standard, 48-Pin QFP, Commerical Grade; DatasheetVersion: v0.6, Jan-2010; PackageVersion: rev40, Jun-2011; PackageReference: QN48; PackageDescription: 48-Pin Quad Flat No-Lead 0.4 mm Pitch (QN48); Code_JEDEC: MO-220-VLLE-1; ComponentLink1Description: Manufacturer URL; ComponentLink1URL: http://www.actel.com/; ComponentLink2Description: ProASIC3 Datasheet; ComponentLink2URL: http://www.actel.com/documents/PA3_nano_DS.pdf; ComponentLink3Description: Package Mechanical Drawings; ComponentLink3URL: http://www.actel.com/documents/PckgMechDrwngs.pdf; ComponentLink4Description: ProASIC3 nano Documents; ComponentLink4URL: http://www.actel.com/products/pa3nano/docs.aspx
footprint QN48_N (QFN, 48-Leads, Body 6x6mm, Pitch 0.4mm, Thermal Pad 4.8x4.8mm, IPC Medium Density)
footprint QN48_L (QFN, 48-Leads, Body 6x6mm, Pitch 0.4mm, Thermal Pad 4.8x4.8mm, IPC High Density)
footprint QN48_M (QFN, 48-Leads, Body 6x6mm, Pitch 0.4mm, Thermal Pad 4.8x4.8mm, IPC Low Density)
part A pins: 29 IO11RSB0 (io), 30 IO10RSB0 (io), 31 IO09RSB0 (io), 32 IO08RSB0 (io), 36 IO07RSB0 (io), 37 IO06RSB0 (io), 38 GDA0/IO05RSB0 (io), 39 IO03RSB0 (io), 40 GDC0/IO01RSB0 (io)
part B pins: 1 GEC0/IO37RSB1 (io), 2 IO36RSB1 (io), 3 GEA0/IO34RSB1 (io), 4 IO22RSB1 (io), 7 IO24RSB1 (io), 8 IO33RSB1 (io), 9 IO26RSB1 (io), 10 IO32RSB1 (io), 11 IO27RSB1 (io), 12 IO29RSB1 (io), 13 IO30RSB1 (io), 14 IO31RSB1 (io), 15 IO28RSB1 (io), 16 IO25RSB1 (io), 17 IO23RSB1 (io), 20 IO17RSB1 (io), 21 IO14RSB1 (io), 41 IO12RSB1 (io), 42 IO13RSB1 (io), 43 IO15RSB1 (io), 44 IO16RSB1 (io), 45 IO18RSB1 (io), 46 IO19RSB1 (io), 47 IO20RSB1 (io), 48 IO21RSB1 (io)
part C pins: 22 TCK (in), 23 TDI (in), 24 TMS (in), 26 TDO (out), 27 TRST (in)
part D pins: 6 VCCIB1 (power), 18 VCC (power), 19 VCCIB1 (power), 25 VPUMP (power), 28 VJTAG (power), 33 VCCIB0 (power), 35 VCC (power)
part E pins: 5 GND (power), 34 GND (power), 49 Thermal Pad (power)
part A text: BANK 0
part B text: BANK 1

## A3PN010-Z1QN48I
designator U?
ProASIC3 nano Flash FPGA, 34 User IOs, 10K System Gates, Z Feature Grade, Speed 15% above Standard, 48-Pin QFP, Industrial Grade; DatasheetVersion: v0.6, Jan-2010; PackageVersion: rev40, Jun-2011; PackageReference: QN48; PackageDescription: 48-Pin Quad Flat No-Lead 0.4 mm Pitch (QN48); Code_JEDEC: MO-220-VLLE-1; ComponentLink1Description: Manufacturer URL; ComponentLink1URL: http://www.actel.com/; ComponentLink2Description: ProASIC3 Datasheet; ComponentLink2URL: http://www.actel.com/documents/PA3_nano_DS.pdf; ComponentLink3Description: Package Mechanical Drawings; ComponentLink3URL: http://www.actel.com/documents/PckgMechDrwngs.pdf; ComponentLink4Description: ProASIC3 nano Documents; ComponentLink4URL: http://www.actel.com/products/pa3nano/docs.aspx
footprint QN48_N (QFN, 48-Leads, Body 6x6mm, Pitch 0.4mm, Thermal Pad 4.8x4.8mm, IPC Medium Density)
footprint QN48_L (QFN, 48-Leads, Body 6x6mm, Pitch 0.4mm, Thermal Pad 4.8x4.8mm, IPC High Density)
footprint QN48_M (QFN, 48-Leads, Body 6x6mm, Pitch 0.4mm, Thermal Pad 4.8x4.8mm, IPC Low Density)
part A pins: 29 IO11RSB0 (io), 30 IO10RSB0 (io), 31 IO09RSB0 (io), 32 IO08RSB0 (io), 36 IO07RSB0 (io), 37 IO06RSB0 (io), 38 GDA0/IO05RSB0 (io), 39 IO03RSB0 (io), 40 GDC0/IO01RSB0 (io)
part B pins: 1 GEC0/IO37RSB1 (io), 2 IO36RSB1 (io), 3 GEA0/IO34RSB1 (io), 4 IO22RSB1 (io), 7 IO24RSB1 (io), 8 IO33RSB1 (io), 9 IO26RSB1 (io), 10 IO32RSB1 (io), 11 IO27RSB1 (io), 12 IO29RSB1 (io), 13 IO30RSB1 (io), 14 IO31RSB1 (io), 15 IO28RSB1 (io), 16 IO25RSB1 (io), 17 IO23RSB1 (io), 20 IO17RSB1 (io), 21 IO14RSB1 (io), 41 IO12RSB1 (io), 42 IO13RSB1 (io), 43 IO15RSB1 (io), 44 IO16RSB1 (io), 45 IO18RSB1 (io), 46 IO19RSB1 (io), 47 IO20RSB1 (io), 48 IO21RSB1 (io)
part C pins: 22 TCK (in), 23 TDI (in), 24 TMS (in), 26 TDO (out), 27 TRST (in)
part D pins: 6 VCCIB1 (power), 18 VCC (power), 19 VCCIB1 (power), 25 VPUMP (power), 28 VJTAG (power), 33 VCCIB0 (power), 35 VCC (power)
part E pins: 5 GND (power), 34 GND (power), 49 Thermal Pad (power)
part A text: BANK 0
part B text: BANK 1

## A3PN010-Z1QNG48
designator U?
ProASIC3 nano Flash FPGA, 34 User IOs, 10K System Gates, Z Feature Grade, Speed 15% above Standard, 48-Pin QFP, Pb-Free, Commerical Grade; DatasheetVersion: v0.6, Jan-2010; PackageVersion: rev40, Jun-2011; PackageReference: QN48; PackageDescription: 48-Pin Quad Flat No-Lead 0.4 mm Pitch (QN48); Code_JEDEC: MO-220-VLLE-1; ComponentLink1Description: Manufacturer URL; ComponentLink1URL: http://www.actel.com/; ComponentLink2Description: ProASIC3 Datasheet; ComponentLink2URL: http://www.actel.com/documents/PA3_nano_DS.pdf; ComponentLink3Description: Package Mechanical Drawings; ComponentLink3URL: http://www.actel.com/documents/PckgMechDrwngs.pdf; ComponentLink4Description: ProASIC3 nano Documents; ComponentLink4URL: http://www.actel.com/products/pa3nano/docs.aspx
footprint QN48_N (QFN, 48-Leads, Body 6x6mm, Pitch 0.4mm, Thermal Pad 4.8x4.8mm, IPC Medium Density)
footprint QN48_L (QFN, 48-Leads, Body 6x6mm, Pitch 0.4mm, Thermal Pad 4.8x4.8mm, IPC High Density)
footprint QN48_M (QFN, 48-Leads, Body 6x6mm, Pitch 0.4mm, Thermal Pad 4.8x4.8mm, IPC Low Density)
part A pins: 29 IO11RSB0 (io), 30 IO10RSB0 (io), 31 IO09RSB0 (io), 32 IO08RSB0 (io), 36 IO07RSB0 (io), 37 IO06RSB0 (io), 38 GDA0/IO05RSB0 (io), 39 IO03RSB0 (io), 40 GDC0/IO01RSB0 (io)
part B pins: 1 GEC0/IO37RSB1 (io), 2 IO36RSB1 (io), 3 GEA0/IO34RSB1 (io), 4 IO22RSB1 (io), 7 IO24RSB1 (io), 8 IO33RSB1 (io), 9 IO26RSB1 (io), 10 IO32RSB1 (io), 11 IO27RSB1 (io), 12 IO29RSB1 (io), 13 IO30RSB1 (io), 14 IO31RSB1 (io), 15 IO28RSB1 (io), 16 IO25RSB1 (io), 17 IO23RSB1 (io), 20 IO17RSB1 (io), 21 IO14RSB1 (io), 41 IO12RSB1 (io), 42 IO13RSB1 (io), 43 IO15RSB1 (io), 44 IO16RSB1 (io), 45 IO18RSB1 (io), 46 IO19RSB1 (io), 47 IO20RSB1 (io), 48 IO21RSB1 (io)
part C pins: 22 TCK (in), 23 TDI (in), 24 TMS (in), 26 TDO (out), 27 TRST (in)
part D pins: 6 VCCIB1 (power), 18 VCC (power), 19 VCCIB1 (power), 25 VPUMP (power), 28 VJTAG (power), 33 VCCIB0 (power), 35 VCC (power)
part E pins: 5 GND (power), 34 GND (power), 49 Thermal Pad (power)
part A text: BANK 0
part B text: BANK 1

## A3PN010-Z1QNG48I
designator U?
ProASIC3 nano Flash FPGA, 34 User IOs, 10K System Gates, Z Feature Grade, Speed 15% above Standard, 48-Pin QFP, Pb-Free, Industrial Grade; DatasheetVersion: v0.6, Jan-2010; PackageVersion: rev40, Jun-2011; PackageReference: QN48; PackageDescription: 48-Pin Quad Flat No-Lead 0.4 mm Pitch (QN48); Code_JEDEC: MO-220-VLLE-1; ComponentLink1Description: Manufacturer URL; ComponentLink1URL: http://www.actel.com/; ComponentLink2Description: ProASIC3 Datasheet; ComponentLink2URL: http://www.actel.com/documents/PA3_nano_DS.pdf; ComponentLink3Description: Package Mechanical Drawings; ComponentLink3URL: http://www.actel.com/documents/PckgMechDrwngs.pdf; ComponentLink4Description: ProASIC3 nano Documents; ComponentLink4URL: http://www.actel.com/products/pa3nano/docs.aspx
footprint QN48_N (QFN, 48-Leads, Body 6x6mm, Pitch 0.4mm, Thermal Pad 4.8x4.8mm, IPC Medium Density)
footprint QN48_L (QFN, 48-Leads, Body 6x6mm, Pitch 0.4mm, Thermal Pad 4.8x4.8mm, IPC High Density)
footprint QN48_M (QFN, 48-Leads, Body 6x6mm, Pitch 0.4mm, Thermal Pad 4.8x4.8mm, IPC Low Density)
part A pins: 29 IO11RSB0 (io), 30 IO10RSB0 (io), 31 IO09RSB0 (io), 32 IO08RSB0 (io), 36 IO07RSB0 (io), 37 IO06RSB0 (io), 38 GDA0/IO05RSB0 (io), 39 IO03RSB0 (io), 40 GDC0/IO01RSB0 (io)
part B pins: 1 GEC0/IO37RSB1 (io), 2 IO36RSB1 (io), 3 GEA0/IO34RSB1 (io), 4 IO22RSB1 (io), 7 IO24RSB1 (io), 8 IO33RSB1 (io), 9 IO26RSB1 (io), 10 IO32RSB1 (io), 11 IO27RSB1 (io), 12 IO29RSB1 (io), 13 IO30RSB1 (io), 14 IO31RSB1 (io), 15 IO28RSB1 (io), 16 IO25RSB1 (io), 17 IO23RSB1 (io), 20 IO17RSB1 (io), 21 IO14RSB1 (io), 41 IO12RSB1 (io), 42 IO13RSB1 (io), 43 IO15RSB1 (io), 44 IO16RSB1 (io), 45 IO18RSB1 (io), 46 IO19RSB1 (io), 47 IO20RSB1 (io), 48 IO21RSB1 (io)
part C pins: 22 TCK (in), 23 TDI (in), 24 TMS (in), 26 TDO (out), 27 TRST (in)
part D pins: 6 VCCIB1 (power), 18 VCC (power), 19 VCCIB1 (power), 25 VPUMP (power), 28 VJTAG (power), 33 VCCIB0 (power), 35 VCC (power)
part E pins: 5 GND (power), 34 GND (power), 49 Thermal Pad (power)
part A text: BANK 0
part B text: BANK 1

## A3PN010-Z2QN48
designator U?
ProASIC3 nano Flash FPGA, 34 User IOs, 10K System Gates, Z Feature Grade, Speed 25% above Standard, 48-Pin QFP, Commerical Grade; DatasheetVersion: v0.6, Jan-2010; PackageVersion: rev40, Jun-2011; PackageReference: QN48; PackageDescription: 48-Pin Quad Flat No-Lead 0.4 mm Pitch (QN48); Code_JEDEC: MO-220-VLLE-1; ComponentLink1Description: Manufacturer URL; ComponentLink1URL: http://www.actel.com/; ComponentLink2Description: ProASIC3 Datasheet; ComponentLink2URL: http://www.actel.com/documents/PA3_nano_DS.pdf; ComponentLink3Description: Package Mechanical Drawings; ComponentLink3URL: http://www.actel.com/documents/PckgMechDrwngs.pdf; ComponentLink4Description: ProASIC3 nano Documents; ComponentLink4URL: http://www.actel.com/products/pa3nano/docs.aspx
footprint QN48_N (QFN, 48-Leads, Body 6x6mm, Pitch 0.4mm, Thermal Pad 4.8x4.8mm, IPC Medium Density)
footprint QN48_L (QFN, 48-Leads, Body 6x6mm, Pitch 0.4mm, Thermal Pad 4.8x4.8mm, IPC High Density)
footprint QN48_M (QFN, 48-Leads, Body 6x6mm, Pitch 0.4mm, Thermal Pad 4.8x4.8mm, IPC Low Density)
part A pins: 29 IO11RSB0 (io), 30 IO10RSB0 (io), 31 IO09RSB0 (io), 32 IO08RSB0 (io), 36 IO07RSB0 (io), 37 IO06RSB0 (io), 38 GDA0/IO05RSB0 (io), 39 IO03RSB0 (io), 40 GDC0/IO01RSB0 (io)
part B pins: 1 GEC0/IO37RSB1 (io), 2 IO36RSB1 (io), 3 GEA0/IO34RSB1 (io), 4 IO22RSB1 (io), 7 IO24RSB1 (io), 8 IO33RSB1 (io), 9 IO26RSB1 (io), 10 IO32RSB1 (io), 11 IO27RSB1 (io), 12 IO29RSB1 (io), 13 IO30RSB1 (io), 14 IO31RSB1 (io), 15 IO28RSB1 (io), 16 IO25RSB1 (io), 17 IO23RSB1 (io), 20 IO17RSB1 (io), 21 IO14RSB1 (io), 41 IO12RSB1 (io), 42 IO13RSB1 (io), 43 IO15RSB1 (io), 44 IO16RSB1 (io), 45 IO18RSB1 (io), 46 IO19RSB1 (io), 47 IO20RSB1 (io), 48 IO21RSB1 (io)
part C pins: 22 TCK (in), 23 TDI (in), 24 TMS (in), 26 TDO (out), 27 TRST (in)
part D pins: 6 VCCIB1 (power), 18 VCC (power), 19 VCCIB1 (power), 25 VPUMP (power), 28 VJTAG (power), 33 VCCIB0 (power), 35 VCC (power)
part E pins: 5 GND (power), 34 GND (power), 49 Thermal Pad (power)
part A text: BANK 0
part B text: BANK 1

## A3PN010-Z2QN48I
designator U?
ProASIC3 nano Flash FPGA, 34 User IOs, 10K System Gates, Z Feature Grade, Speed 25% above Standard, 48-Pin QFP, Industrial Grade; DatasheetVersion: v0.6, Jan-2010; PackageVersion: rev40, Jun-2011; PackageReference: QN48; PackageDescription: 48-Pin Quad Flat No-Lead 0.4 mm Pitch (QN48); Code_JEDEC: MO-220-VLLE-1; ComponentLink1Description: Manufacturer URL; ComponentLink1URL: http://www.actel.com/; ComponentLink2Description: ProASIC3 Datasheet; ComponentLink2URL: http://www.actel.com/documents/PA3_nano_DS.pdf; ComponentLink3Description: Package Mechanical Drawings; ComponentLink3URL: http://www.actel.com/documents/PckgMechDrwngs.pdf; ComponentLink4Description: ProASIC3 nano Documents; ComponentLink4URL: http://www.actel.com/products/pa3nano/docs.aspx
footprint QN48_N (QFN, 48-Leads, Body 6x6mm, Pitch 0.4mm, Thermal Pad 4.8x4.8mm, IPC Medium Density)
footprint QN48_L (QFN, 48-Leads, Body 6x6mm, Pitch 0.4mm, Thermal Pad 4.8x4.8mm, IPC High Density)
footprint QN48_M (QFN, 48-Leads, Body 6x6mm, Pitch 0.4mm, Thermal Pad 4.8x4.8mm, IPC Low Density)
part A pins: 29 IO11RSB0 (io), 30 IO10RSB0 (io), 31 IO09RSB0 (io), 32 IO08RSB0 (io), 36 IO07RSB0 (io), 37 IO06RSB0 (io), 38 GDA0/IO05RSB0 (io), 39 IO03RSB0 (io), 40 GDC0/IO01RSB0 (io)
part B pins: 1 GEC0/IO37RSB1 (io), 2 IO36RSB1 (io), 3 GEA0/IO34RSB1 (io), 4 IO22RSB1 (io), 7 IO24RSB1 (io), 8 IO33RSB1 (io), 9 IO26RSB1 (io), 10 IO32RSB1 (io), 11 IO27RSB1 (io), 12 IO29RSB1 (io), 13 IO30RSB1 (io), 14 IO31RSB1 (io), 15 IO28RSB1 (io), 16 IO25RSB1 (io), 17 IO23RSB1 (io), 20 IO17RSB1 (io), 21 IO14RSB1 (io), 41 IO12RSB1 (io), 42 IO13RSB1 (io), 43 IO15RSB1 (io), 44 IO16RSB1 (io), 45 IO18RSB1 (io), 46 IO19RSB1 (io), 47 IO20RSB1 (io), 48 IO21RSB1 (io)
part C pins: 22 TCK (in), 23 TDI (in), 24 TMS (in), 26 TDO (out), 27 TRST (in)
part D pins: 6 VCCIB1 (power), 18 VCC (power), 19 VCCIB1 (power), 25 VPUMP (power), 28 VJTAG (power), 33 VCCIB0 (power), 35 VCC (power)
part E pins: 5 GND (power), 34 GND (power), 49 Thermal Pad (power)
part A text: BANK 0
part B text: BANK 1

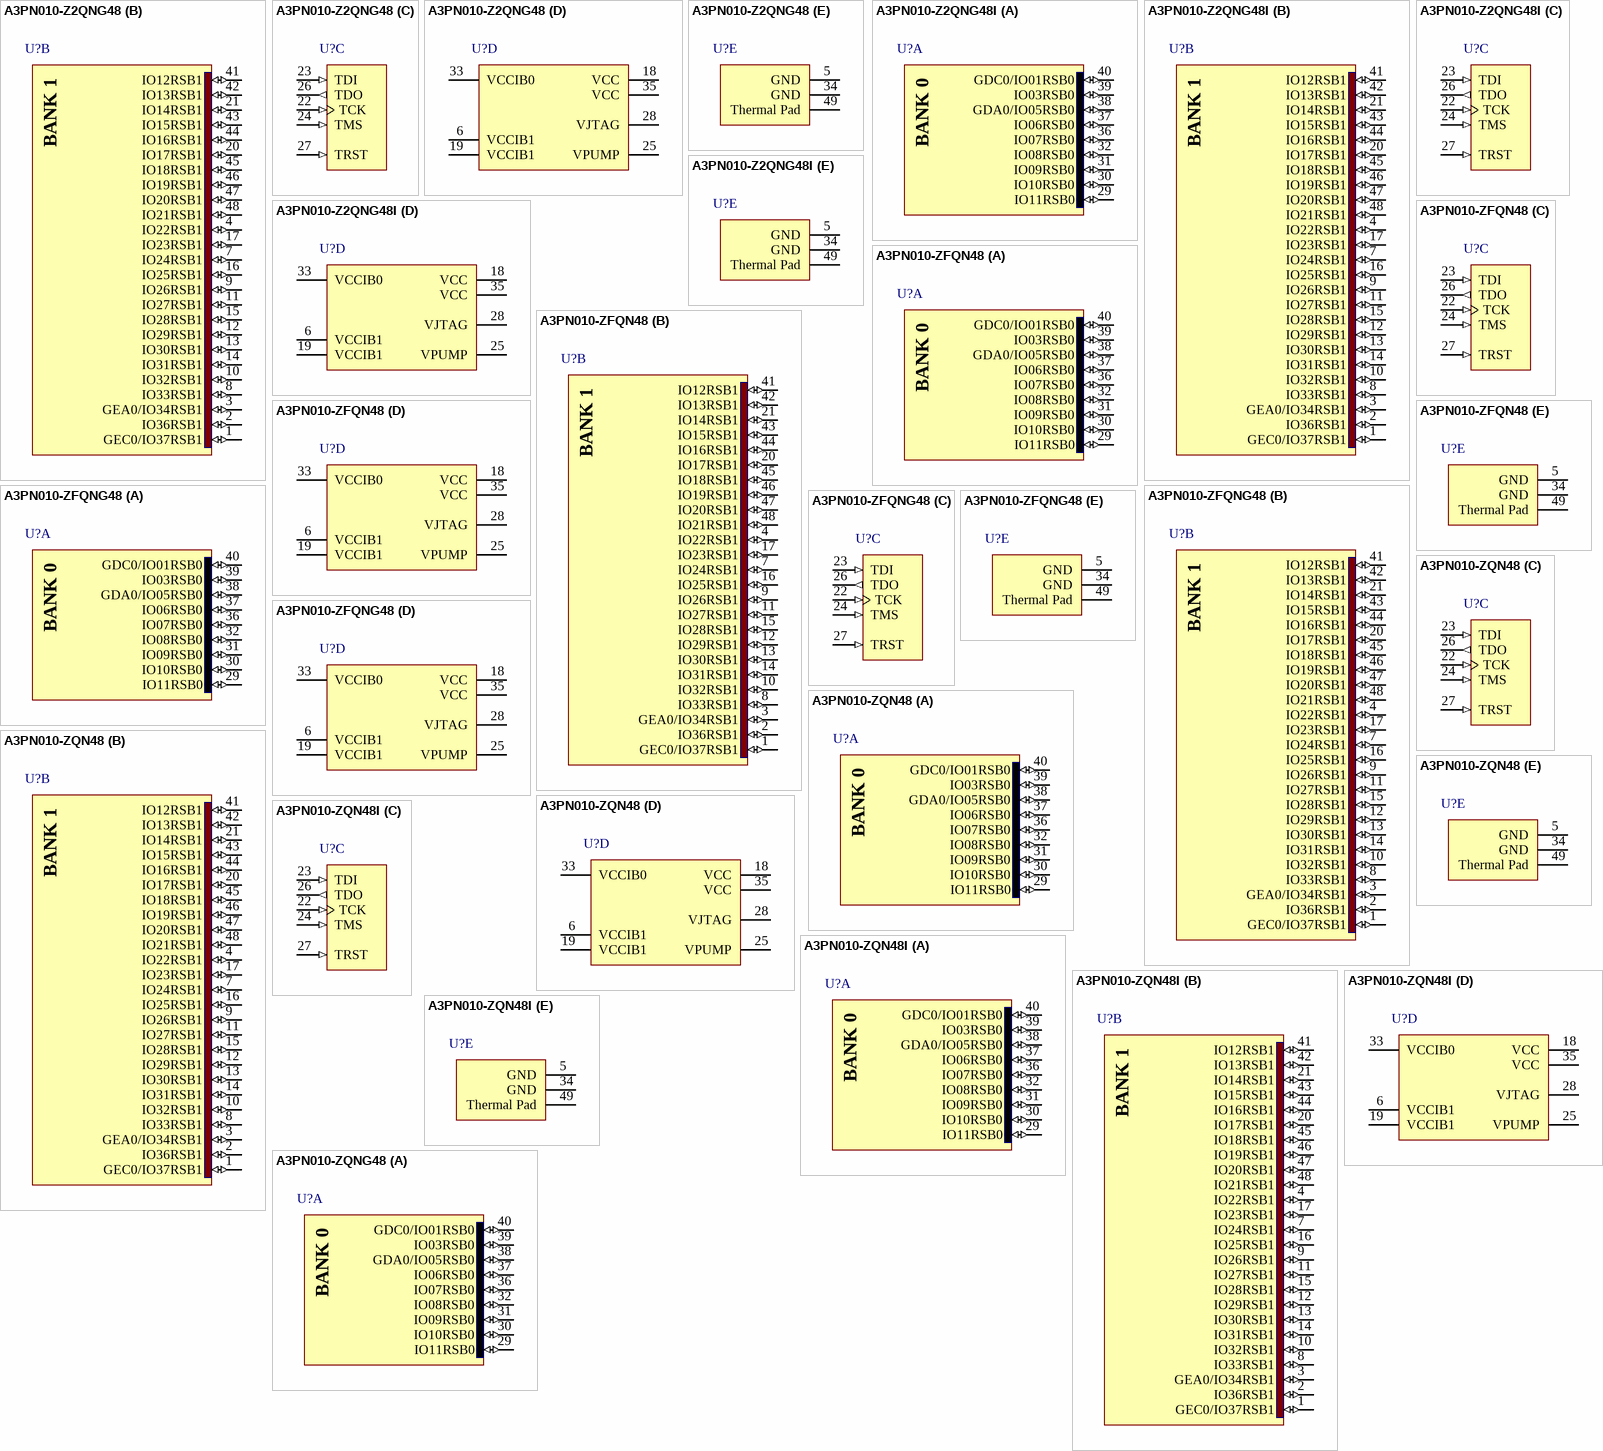
[diagram p3: symbols A3PN010-Z2QNG48 to A3PN010-ZQNG48]

## A3PN010-Z2QNG48
designator U?
ProASIC3 nano Flash FPGA, 34 User IOs, 10K System Gates, Z Feature Grade, Speed 25% above Standard, 48-Pin QFP, Pb-Free, Commerical Grade; DatasheetVersion: v0.6, Jan-2010; PackageVersion: rev40, Jun-2011; PackageReference: QN48; PackageDescription: 48-Pin Quad Flat No-Lead 0.4 mm Pitch (QN48); Code_JEDEC: MO-220-VLLE-1; ComponentLink1Description: Manufacturer URL; ComponentLink1URL: http://www.actel.com/; ComponentLink2Description: ProASIC3 Datasheet; ComponentLink2URL: http://www.actel.com/documents/PA3_nano_DS.pdf; ComponentLink3Description: Package Mechanical Drawings; ComponentLink3URL: http://www.actel.com/documents/PckgMechDrwngs.pdf; ComponentLink4Description: ProASIC3 nano Documents; ComponentLink4URL: http://www.actel.com/products/pa3nano/docs.aspx
footprint QN48_N (QFN, 48-Leads, Body 6x6mm, Pitch 0.4mm, Thermal Pad 4.8x4.8mm, IPC Medium Density)
footprint QN48_L (QFN, 48-Leads, Body 6x6mm, Pitch 0.4mm, Thermal Pad 4.8x4.8mm, IPC High Density)
footprint QN48_M (QFN, 48-Leads, Body 6x6mm, Pitch 0.4mm, Thermal Pad 4.8x4.8mm, IPC Low Density)
part A pins: 29 IO11RSB0 (io), 30 IO10RSB0 (io), 31 IO09RSB0 (io), 32 IO08RSB0 (io), 36 IO07RSB0 (io), 37 IO06RSB0 (io), 38 GDA0/IO05RSB0 (io), 39 IO03RSB0 (io), 40 GDC0/IO01RSB0 (io)
part B pins: 1 GEC0/IO37RSB1 (io), 2 IO36RSB1 (io), 3 GEA0/IO34RSB1 (io), 4 IO22RSB1 (io), 7 IO24RSB1 (io), 8 IO33RSB1 (io), 9 IO26RSB1 (io), 10 IO32RSB1 (io), 11 IO27RSB1 (io), 12 IO29RSB1 (io), 13 IO30RSB1 (io), 14 IO31RSB1 (io), 15 IO28RSB1 (io), 16 IO25RSB1 (io), 17 IO23RSB1 (io), 20 IO17RSB1 (io), 21 IO14RSB1 (io), 41 IO12RSB1 (io), 42 IO13RSB1 (io), 43 IO15RSB1 (io), 44 IO16RSB1 (io), 45 IO18RSB1 (io), 46 IO19RSB1 (io), 47 IO20RSB1 (io), 48 IO21RSB1 (io)
part C pins: 22 TCK (in), 23 TDI (in), 24 TMS (in), 26 TDO (out), 27 TRST (in)
part D pins: 6 VCCIB1 (power), 18 VCC (power), 19 VCCIB1 (power), 25 VPUMP (power), 28 VJTAG (power), 33 VCCIB0 (power), 35 VCC (power)
part E pins: 5 GND (power), 34 GND (power), 49 Thermal Pad (power)
part A text: BANK 0
part B text: BANK 1

## A3PN010-Z2QNG48I
designator U?
ProASIC3 nano Flash FPGA, 34 User IOs, 10K System Gates, Z Feature Grade, Speed 25% above Standard, 48-Pin QFP, Pb-Free, Industrial Grade; DatasheetVersion: v0.6, Jan-2010; PackageVersion: rev40, Jun-2011; PackageReference: QN48; PackageDescription: 48-Pin Quad Flat No-Lead 0.4 mm Pitch (QN48); Code_JEDEC: MO-220-VLLE-1; ComponentLink1Description: Manufacturer URL; ComponentLink1URL: http://www.actel.com/; ComponentLink2Description: ProASIC3 Datasheet; ComponentLink2URL: http://www.actel.com/documents/PA3_nano_DS.pdf; ComponentLink3Description: Package Mechanical Drawings; ComponentLink3URL: http://www.actel.com/documents/PckgMechDrwngs.pdf; ComponentLink4Description: ProASIC3 nano Documents; ComponentLink4URL: http://www.actel.com/products/pa3nano/docs.aspx
footprint QN48_N (QFN, 48-Leads, Body 6x6mm, Pitch 0.4mm, Thermal Pad 4.8x4.8mm, IPC Medium Density)
footprint QN48_L (QFN, 48-Leads, Body 6x6mm, Pitch 0.4mm, Thermal Pad 4.8x4.8mm, IPC High Density)
footprint QN48_M (QFN, 48-Leads, Body 6x6mm, Pitch 0.4mm, Thermal Pad 4.8x4.8mm, IPC Low Density)
part A pins: 29 IO11RSB0 (io), 30 IO10RSB0 (io), 31 IO09RSB0 (io), 32 IO08RSB0 (io), 36 IO07RSB0 (io), 37 IO06RSB0 (io), 38 GDA0/IO05RSB0 (io), 39 IO03RSB0 (io), 40 GDC0/IO01RSB0 (io)
part B pins: 1 GEC0/IO37RSB1 (io), 2 IO36RSB1 (io), 3 GEA0/IO34RSB1 (io), 4 IO22RSB1 (io), 7 IO24RSB1 (io), 8 IO33RSB1 (io), 9 IO26RSB1 (io), 10 IO32RSB1 (io), 11 IO27RSB1 (io), 12 IO29RSB1 (io), 13 IO30RSB1 (io), 14 IO31RSB1 (io), 15 IO28RSB1 (io), 16 IO25RSB1 (io), 17 IO23RSB1 (io), 20 IO17RSB1 (io), 21 IO14RSB1 (io), 41 IO12RSB1 (io), 42 IO13RSB1 (io), 43 IO15RSB1 (io), 44 IO16RSB1 (io), 45 IO18RSB1 (io), 46 IO19RSB1 (io), 47 IO20RSB1 (io), 48 IO21RSB1 (io)
part C pins: 22 TCK (in), 23 TDI (in), 24 TMS (in), 26 TDO (out), 27 TRST (in)
part D pins: 6 VCCIB1 (power), 18 VCC (power), 19 VCCIB1 (power), 25 VPUMP (power), 28 VJTAG (power), 33 VCCIB0 (power), 35 VCC (power)
part E pins: 5 GND (power), 34 GND (power), 49 Thermal Pad (power)
part A text: BANK 0
part B text: BANK 1

## A3PN010-ZFQN48
designator U?
ProASIC3 nano Flash FPGA, 34 User IOs, 10K System Gates, Z Feature Grade, Speed 20% below Standard, 48-Pin QFP, Commerical Grade; DatasheetVersion: v0.6, Jan-2010; PackageVersion: rev40, Jun-2011; PackageReference: QN48; PackageDescription: 48-Pin Quad Flat No-Lead 0.4 mm Pitch (QN48); Code_JEDEC: MO-220-VLLE-1; ComponentLink1Description: Manufacturer URL; ComponentLink1URL: http://www.actel.com/; ComponentLink2Description: ProASIC3 Datasheet; ComponentLink2URL: http://www.actel.com/documents/PA3_nano_DS.pdf; ComponentLink3Description: Package Mechanical Drawings; ComponentLink3URL: http://www.actel.com/documents/PckgMechDrwngs.pdf; ComponentLink4Description: ProASIC3 nano Documents; ComponentLink4URL: http://www.actel.com/products/pa3nano/docs.aspx
footprint QN48_N (QFN, 48-Leads, Body 6x6mm, Pitch 0.4mm, Thermal Pad 4.8x4.8mm, IPC Medium Density)
footprint QN48_L (QFN, 48-Leads, Body 6x6mm, Pitch 0.4mm, Thermal Pad 4.8x4.8mm, IPC High Density)
footprint QN48_M (QFN, 48-Leads, Body 6x6mm, Pitch 0.4mm, Thermal Pad 4.8x4.8mm, IPC Low Density)
part A pins: 29 IO11RSB0 (io), 30 IO10RSB0 (io), 31 IO09RSB0 (io), 32 IO08RSB0 (io), 36 IO07RSB0 (io), 37 IO06RSB0 (io), 38 GDA0/IO05RSB0 (io), 39 IO03RSB0 (io), 40 GDC0/IO01RSB0 (io)
part B pins: 1 GEC0/IO37RSB1 (io), 2 IO36RSB1 (io), 3 GEA0/IO34RSB1 (io), 4 IO22RSB1 (io), 7 IO24RSB1 (io), 8 IO33RSB1 (io), 9 IO26RSB1 (io), 10 IO32RSB1 (io), 11 IO27RSB1 (io), 12 IO29RSB1 (io), 13 IO30RSB1 (io), 14 IO31RSB1 (io), 15 IO28RSB1 (io), 16 IO25RSB1 (io), 17 IO23RSB1 (io), 20 IO17RSB1 (io), 21 IO14RSB1 (io), 41 IO12RSB1 (io), 42 IO13RSB1 (io), 43 IO15RSB1 (io), 44 IO16RSB1 (io), 45 IO18RSB1 (io), 46 IO19RSB1 (io), 47 IO20RSB1 (io), 48 IO21RSB1 (io)
part C pins: 22 TCK (in), 23 TDI (in), 24 TMS (in), 26 TDO (out), 27 TRST (in)
part D pins: 6 VCCIB1 (power), 18 VCC (power), 19 VCCIB1 (power), 25 VPUMP (power), 28 VJTAG (power), 33 VCCIB0 (power), 35 VCC (power)
part E pins: 5 GND (power), 34 GND (power), 49 Thermal Pad (power)
part A text: BANK 0
part B text: BANK 1

## A3PN010-ZFQNG48
designator U?
ProASIC3 nano Flash FPGA, 34 User IOs, 10K System Gates, Z Feature Grade, Speed 20% below Standard, 48-Pin QFP, Pb-Free, Commerical Grade; DatasheetVersion: v0.6, Jan-2010; PackageVersion: rev40, Jun-2011; PackageReference: QN48; PackageDescription: 48-Pin Quad Flat No-Lead 0.4 mm Pitch (QN48); Code_JEDEC: MO-220-VLLE-1; ComponentLink1Description: Manufacturer URL; ComponentLink1URL: http://www.actel.com/; ComponentLink2Description: ProASIC3 Datasheet; ComponentLink2URL: http://www.actel.com/documents/PA3_nano_DS.pdf; ComponentLink3Description: Package Mechanical Drawings; ComponentLink3URL: http://www.actel.com/documents/PckgMechDrwngs.pdf; ComponentLink4Description: ProASIC3 nano Documents; ComponentLink4URL: http://www.actel.com/products/pa3nano/docs.aspx
footprint QN48_N (QFN, 48-Leads, Body 6x6mm, Pitch 0.4mm, Thermal Pad 4.8x4.8mm, IPC Medium Density)
footprint QN48_L (QFN, 48-Leads, Body 6x6mm, Pitch 0.4mm, Thermal Pad 4.8x4.8mm, IPC High Density)
footprint QN48_M (QFN, 48-Leads, Body 6x6mm, Pitch 0.4mm, Thermal Pad 4.8x4.8mm, IPC Low Density)
part A pins: 29 IO11RSB0 (io), 30 IO10RSB0 (io), 31 IO09RSB0 (io), 32 IO08RSB0 (io), 36 IO07RSB0 (io), 37 IO06RSB0 (io), 38 GDA0/IO05RSB0 (io), 39 IO03RSB0 (io), 40 GDC0/IO01RSB0 (io)
part B pins: 1 GEC0/IO37RSB1 (io), 2 IO36RSB1 (io), 3 GEA0/IO34RSB1 (io), 4 IO22RSB1 (io), 7 IO24RSB1 (io), 8 IO33RSB1 (io), 9 IO26RSB1 (io), 10 IO32RSB1 (io), 11 IO27RSB1 (io), 12 IO29RSB1 (io), 13 IO30RSB1 (io), 14 IO31RSB1 (io), 15 IO28RSB1 (io), 16 IO25RSB1 (io), 17 IO23RSB1 (io), 20 IO17RSB1 (io), 21 IO14RSB1 (io), 41 IO12RSB1 (io), 42 IO13RSB1 (io), 43 IO15RSB1 (io), 44 IO16RSB1 (io), 45 IO18RSB1 (io), 46 IO19RSB1 (io), 47 IO20RSB1 (io), 48 IO21RSB1 (io)
part C pins: 22 TCK (in), 23 TDI (in), 24 TMS (in), 26 TDO (out), 27 TRST (in)
part D pins: 6 VCCIB1 (power), 18 VCC (power), 19 VCCIB1 (power), 25 VPUMP (power), 28 VJTAG (power), 33 VCCIB0 (power), 35 VCC (power)
part E pins: 5 GND (power), 34 GND (power), 49 Thermal Pad (power)
part A text: BANK 0
part B text: BANK 1

## A3PN010-ZQN48
designator U?
ProASIC3 nano Flash FPGA, 34 User IOs, 10K System Gates, Z Feature Grade, Standard Speed, 48-Pin QFP, Commerical Grade; DatasheetVersion: v0.6, Jan-2010; PackageVersion: rev40, Jun-2011; PackageReference: QN48; PackageDescription: 48-Pin Quad Flat No-Lead 0.4 mm Pitch (QN48); Code_JEDEC: MO-220-VLLE-1; ComponentLink1Description: Manufacturer URL; ComponentLink1URL: http://www.actel.com/; ComponentLink2Description: ProASIC3 Datasheet; ComponentLink2URL: http://www.actel.com/documents/PA3_nano_DS.pdf; ComponentLink3Description: Package Mechanical Drawings; ComponentLink3URL: http://www.actel.com/documents/PckgMechDrwngs.pdf; ComponentLink4Description: ProASIC3 nano Documents; ComponentLink4URL: http://www.actel.com/products/pa3nano/docs.aspx
footprint QN48_N (QFN, 48-Leads, Body 6x6mm, Pitch 0.4mm, Thermal Pad 4.8x4.8mm, IPC Medium Density)
footprint QN48_L (QFN, 48-Leads, Body 6x6mm, Pitch 0.4mm, Thermal Pad 4.8x4.8mm, IPC High Density)
footprint QN48_M (QFN, 48-Leads, Body 6x6mm, Pitch 0.4mm, Thermal Pad 4.8x4.8mm, IPC Low Density)
part A pins: 29 IO11RSB0 (io), 30 IO10RSB0 (io), 31 IO09RSB0 (io), 32 IO08RSB0 (io), 36 IO07RSB0 (io), 37 IO06RSB0 (io), 38 GDA0/IO05RSB0 (io), 39 IO03RSB0 (io), 40 GDC0/IO01RSB0 (io)
part B pins: 1 GEC0/IO37RSB1 (io), 2 IO36RSB1 (io), 3 GEA0/IO34RSB1 (io), 4 IO22RSB1 (io), 7 IO24RSB1 (io), 8 IO33RSB1 (io), 9 IO26RSB1 (io), 10 IO32RSB1 (io), 11 IO27RSB1 (io), 12 IO29RSB1 (io), 13 IO30RSB1 (io), 14 IO31RSB1 (io), 15 IO28RSB1 (io), 16 IO25RSB1 (io), 17 IO23RSB1 (io), 20 IO17RSB1 (io), 21 IO14RSB1 (io), 41 IO12RSB1 (io), 42 IO13RSB1 (io), 43 IO15RSB1 (io), 44 IO16RSB1 (io), 45 IO18RSB1 (io), 46 IO19RSB1 (io), 47 IO20RSB1 (io), 48 IO21RSB1 (io)
part C pins: 22 TCK (in), 23 TDI (in), 24 TMS (in), 26 TDO (out), 27 TRST (in)
part D pins: 6 VCCIB1 (power), 18 VCC (power), 19 VCCIB1 (power), 25 VPUMP (power), 28 VJTAG (power), 33 VCCIB0 (power), 35 VCC (power)
part E pins: 5 GND (power), 34 GND (power), 49 Thermal Pad (power)
part A text: BANK 0
part B text: BANK 1

## A3PN010-ZQN48I
designator U?
ProASIC3 nano Flash FPGA, 34 User IOs, 10K System Gates, Z Feature Grade, Standard Speed, 48-Pin QFP, Industrial Grade; DatasheetVersion: v0.6, Jan-2010; PackageVersion: rev40, Jun-2011; PackageReference: QN48; PackageDescription: 48-Pin Quad Flat No-Lead 0.4 mm Pitch (QN48); Code_JEDEC: MO-220-VLLE-1; ComponentLink1Description: Manufacturer URL; ComponentLink1URL: http://www.actel.com/; ComponentLink2Description: ProASIC3 Datasheet; ComponentLink2URL: http://www.actel.com/documents/PA3_nano_DS.pdf; ComponentLink3Description: Package Mechanical Drawings; ComponentLink3URL: http://www.actel.com/documents/PckgMechDrwngs.pdf; ComponentLink4Description: ProASIC3 nano Documents; ComponentLink4URL: http://www.actel.com/products/pa3nano/docs.aspx
footprint QN48_N (QFN, 48-Leads, Body 6x6mm, Pitch 0.4mm, Thermal Pad 4.8x4.8mm, IPC Medium Density)
footprint QN48_L (QFN, 48-Leads, Body 6x6mm, Pitch 0.4mm, Thermal Pad 4.8x4.8mm, IPC High Density)
footprint QN48_M (QFN, 48-Leads, Body 6x6mm, Pitch 0.4mm, Thermal Pad 4.8x4.8mm, IPC Low Density)
part A pins: 29 IO11RSB0 (io), 30 IO10RSB0 (io), 31 IO09RSB0 (io), 32 IO08RSB0 (io), 36 IO07RSB0 (io), 37 IO06RSB0 (io), 38 GDA0/IO05RSB0 (io), 39 IO03RSB0 (io), 40 GDC0/IO01RSB0 (io)
part B pins: 1 GEC0/IO37RSB1 (io), 2 IO36RSB1 (io), 3 GEA0/IO34RSB1 (io), 4 IO22RSB1 (io), 7 IO24RSB1 (io), 8 IO33RSB1 (io), 9 IO26RSB1 (io), 10 IO32RSB1 (io), 11 IO27RSB1 (io), 12 IO29RSB1 (io), 13 IO30RSB1 (io), 14 IO31RSB1 (io), 15 IO28RSB1 (io), 16 IO25RSB1 (io), 17 IO23RSB1 (io), 20 IO17RSB1 (io), 21 IO14RSB1 (io), 41 IO12RSB1 (io), 42 IO13RSB1 (io), 43 IO15RSB1 (io), 44 IO16RSB1 (io), 45 IO18RSB1 (io), 46 IO19RSB1 (io), 47 IO20RSB1 (io), 48 IO21RSB1 (io)
part C pins: 22 TCK (in), 23 TDI (in), 24 TMS (in), 26 TDO (out), 27 TRST (in)
part D pins: 6 VCCIB1 (power), 18 VCC (power), 19 VCCIB1 (power), 25 VPUMP (power), 28 VJTAG (power), 33 VCCIB0 (power), 35 VCC (power)
part E pins: 5 GND (power), 34 GND (power), 49 Thermal Pad (power)
part A text: BANK 0
part B text: BANK 1

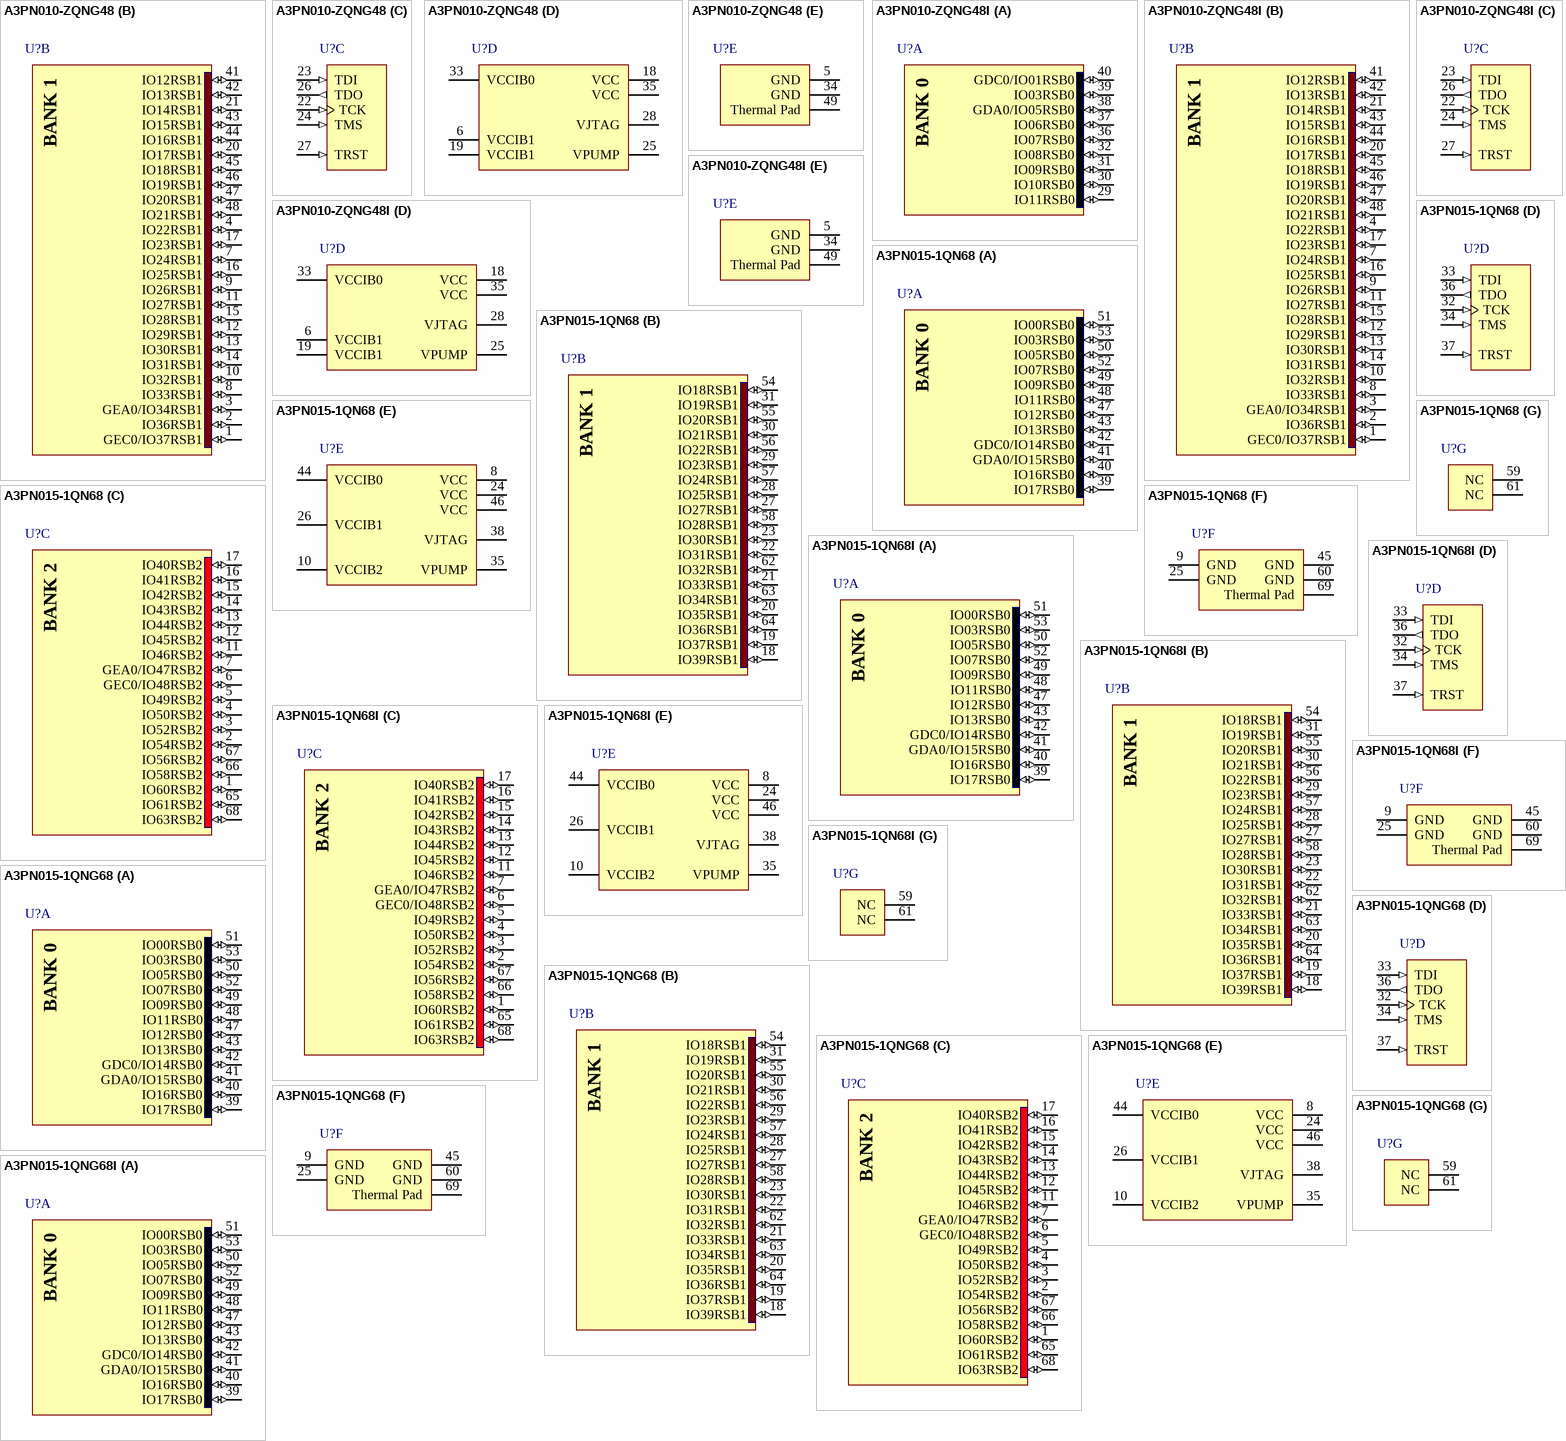
[diagram p4: symbols A3PN010-ZQNG48 to A3PN015-1QNG68I]